# Altium integrated library Altera Cyclone.IntLib: 144 symbols (part 12 of 23)
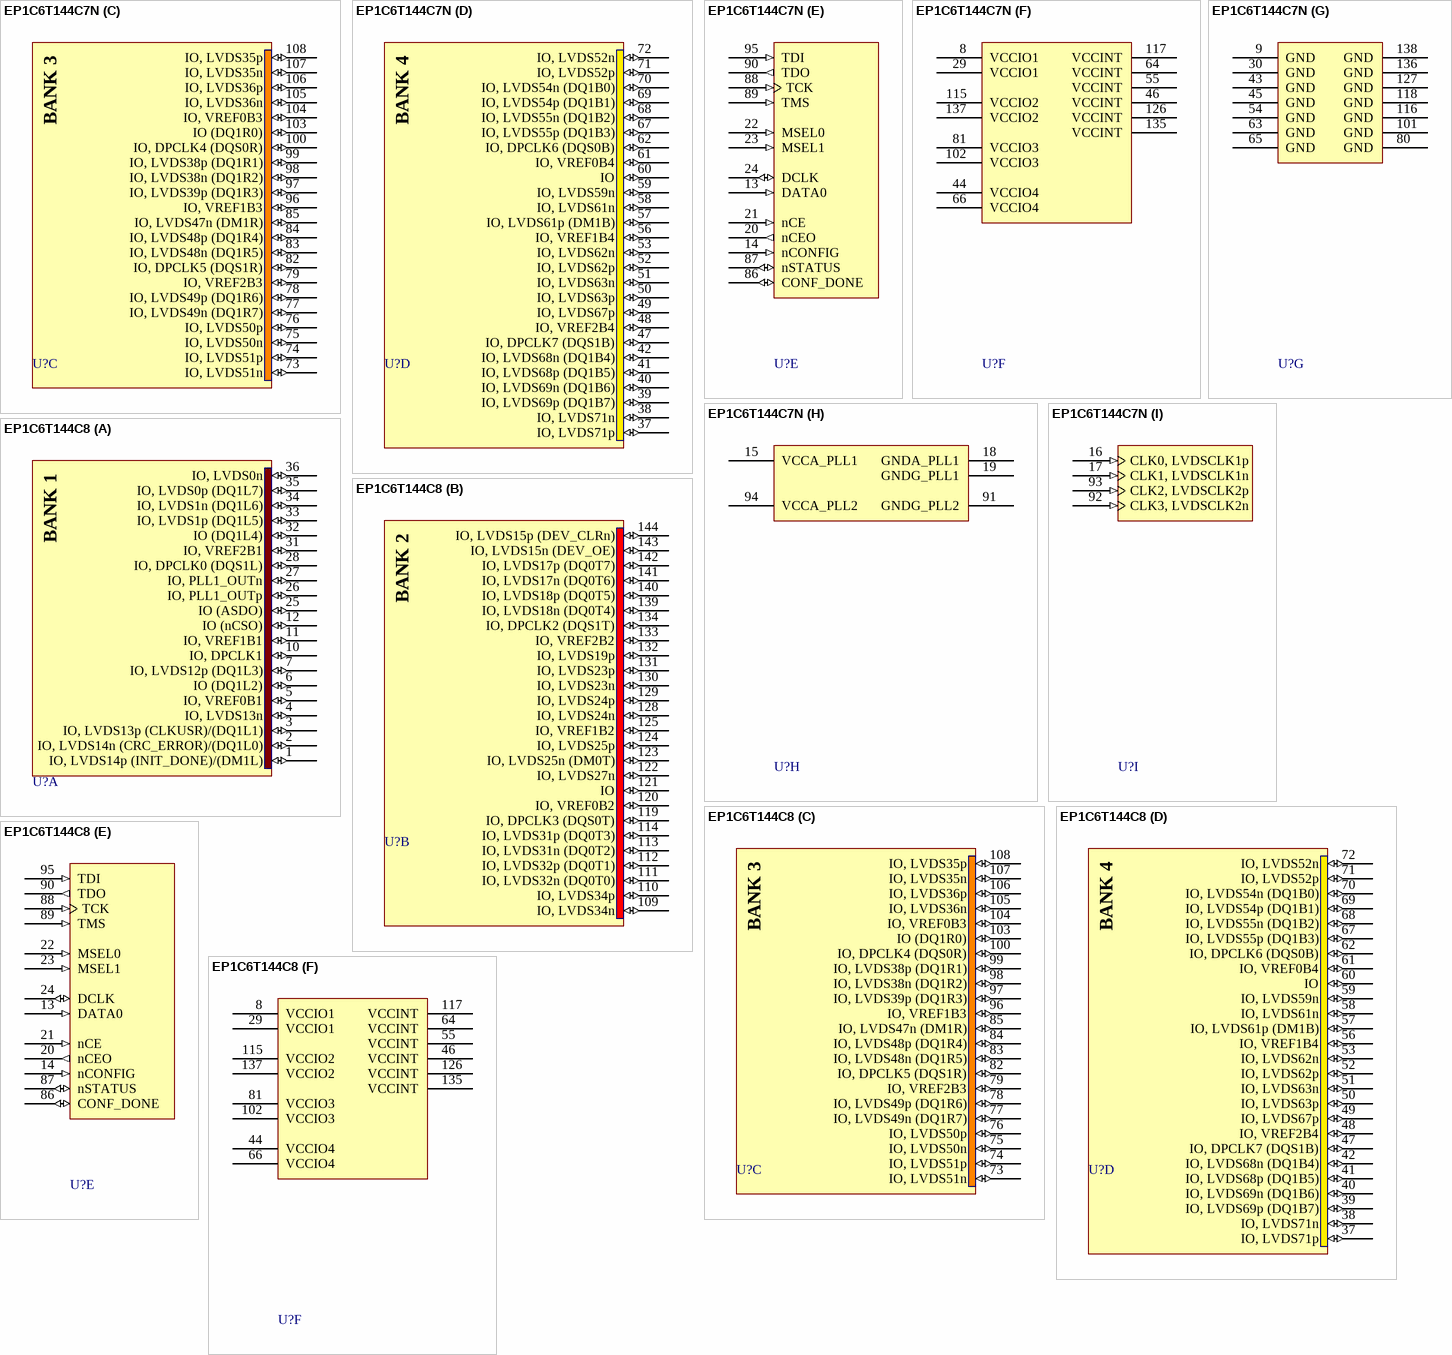
[diagram p164: symbols EP1C6T144C7N to EP1C6T144C8]

## EP1C6T144C7N
designator U?
Cyclone Family, 1.5V FPGA, 98 I/O Pins, 2 x PLLs, Commercial Grade, Speed Grade 7, Pb-Free; Published: 4-Mar-2005; LatestRevisionDate: 13-Apr-2006; LatestRevisionNote: Pin 2 name fix, IPC-7351 Footprint Added.; DatasheetVersion: May-2008; PackageVersion: ver15.1, May-2008; PackageReference: TQFP144; Publisher: Altium Limited; PackageDescription: 144-Pin Plastic Thin Quad Flat Pack (TQFP144) - Wire Bond; Code_JEDEC: MS-026-BFB; ComponentLink1Description: Manufacturer Link; ComponentLink1URL: http://www.altera.com/products/devices/cyclone/cyc-index.jsp; ComponentLink2Description: Handbook; ComponentLink2URL: http://www.altera.com/literature/hb/cyc/cyc_c5v1.pdf; ComponentLink3Description: Packaging Specification; ComponentLink3URL: http://www.altera.com/literature/ds/dspkg.pdf
footprint TQFP144_N (Thin QFP, 144-Leads, Body 20x20mm, Pitch 0.5mm, IPC Medium Density)
footprint TQFP144_L (Thin QFP, 144-Leads, Body 20x20mm, Pitch 0.5mm, IPC High Density)
footprint TQFP144_M (Thin QFP, 144-Leads, Body 20x20mm, Pitch 0.5mm, IPC Low Density)
3D model EP1C6-TQFP144 (144-Pin Plastic Thin Quad Flat Pack (TQFP144) - Wire Bond)
signal-integrity model 1c (Cyclone)
part A pins: 1 IO, LVDS14p (INIT_DONE)/(DM1L) (io), 2 IO, LVDS14n (CRC_ERROR)/(DQ1L0) (io), 3 IO, LVDS13p (CLKUSR)/(DQ1L1) (io), 4 IO, LVDS13n (io), 5 IO, VREF0B1 (io), 6 IO (DQ1L2) (io), 7 IO, LVDS12p (DQ1L3) (io), 10 IO, DPCLK1 (io), 11 IO, VREF1B1 (io), 12 IO (nCSO) (io), 25 IO (ASDO) (io), 26 IO, PLL1_OUTp (io), 27 IO, PLL1_OUTn (io), 28 IO, DPCLK0 (DQS1L) (io), 31 IO, VREF2B1 (io), 32 IO (DQ1L4) (io), 33 IO, LVDS1p (DQ1L5) (io), 34 IO, LVDS1n (DQ1L6) (io), 35 IO, LVDS0p (DQ1L7) (io), 36 IO, LVDS0n (io)
part B pins: 109 IO, LVDS34n (io), 110 IO, LVDS34p (io), 111 IO, LVDS32n (DQ0T0) (io), 112 IO, LVDS32p (DQ0T1) (io), 113 IO, LVDS31n (DQ0T2) (io), 114 IO, LVDS31p (DQ0T3) (io), 119 IO, DPCLK3 (DQS0T) (io), 120 IO, VREF0B2 (io), 121 IO (io), 122 IO, LVDS27n (io), 123 IO, LVDS25n (DM0T) (io), 124 IO, LVDS25p (io), 125 IO, VREF1B2 (io), 128 IO, LVDS24n (io), 129 IO, LVDS24p (io), 130 IO, LVDS23n (io), 131 IO, LVDS23p (io), 132 IO, LVDS19p (io), 133 IO, VREF2B2 (io), 134 IO, DPCLK2 (DQS1T) (io), 139 IO, LVDS18n (DQ0T4) (io), 140 IO, LVDS18p (DQ0T5) (io), 141 IO, LVDS17n (DQ0T6) (io), 142 IO, LVDS17p (DQ0T7) (io), 143 IO, LVDS15n (DEV_OE) (io), 144 IO, LVDS15p (DEV_CLRn) (io)
part C pins: 73 IO, LVDS51n (io), 74 IO, LVDS51p (io), 75 IO, LVDS50n (io), 76 IO, LVDS50p (io), 77 IO, LVDS49n (DQ1R7) (io), 78 IO, LVDS49p (DQ1R6) (io), 79 IO, VREF2B3 (io), 82 IO, DPCLK5 (DQS1R) (io), 83 IO, LVDS48n (DQ1R5) (io), 84 IO, LVDS48p (DQ1R4) (io), 85 IO, LVDS47n (DM1R) (io), 96 IO, VREF1B3 (io), 97 IO, LVDS39p (DQ1R3) (io), 98 IO, LVDS38n (DQ1R2) (io), 99 IO, LVDS38p (DQ1R1) (io), 100 IO, DPCLK4 (DQS0R) (io), 103 IO (DQ1R0) (io), 104 IO, VREF0B3 (io), 105 IO, LVDS36n (io), 106 IO, LVDS36p (io), 107 IO, LVDS35n (io), 108 IO, LVDS35p (io)
part D pins: 37 IO, LVDS71p (io), 38 IO, LVDS71n (io), 39 IO, LVDS69p (DQ1B7) (io), 40 IO, LVDS69n (DQ1B6) (io), 41 IO, LVDS68p (DQ1B5) (io), 42 IO, LVDS68n (DQ1B4) (io), 47 IO, DPCLK7 (DQS1B) (io), 48 IO, VREF2B4 (io), 49 IO, LVDS67p (io), 50 IO, LVDS63p (io), 51 IO, LVDS63n (io), 52 IO, LVDS62p (io), 53 IO, LVDS62n (io), 56 IO, VREF1B4 (io), 57 IO, LVDS61p (DM1B) (io), 58 IO, LVDS61n (io), 59 IO, LVDS59n (io), 60 IO (io), 61 IO, VREF0B4 (io), 62 IO, DPCLK6 (DQS0B) (io), 67 IO, LVDS55p (DQ1B3) (io), 68 IO, LVDS55n (DQ1B2) (io), 69 IO, LVDS54p (DQ1B1) (io), 70 IO, LVDS54n (DQ1B0) (io), 71 IO, LVDS52p (io), 72 IO, LVDS52n (io)
part E pins: 13 DATA0 (in), 14 nCONFIG (in), 20 nCEO (out), 21 nCE (in), 22 MSEL0 (in), 23 MSEL1 (in), 24 DCLK (io), 86 CONF_DONE (io), 87 nSTATUS (io), 88 TCK (in), 89 TMS (in), 90 TDO (out), 95 TDI (in)
part F pins: 8 VCCIO1 (power), 29 VCCIO1 (power), 44 VCCIO4 (power), 46 VCCINT (power), 55 VCCINT (power), 64 VCCINT (power), 66 VCCIO4 (power), 81 VCCIO3 (power), 102 VCCIO3 (power), 115 VCCIO2 (power), 117 VCCINT (power), 126 VCCINT (power), 135 VCCINT (power), 137 VCCIO2 (power)
part G pins: 9 GND (power), 30 GND (power), 43 GND (power), 45 GND (power), 54 GND (power), 63 GND (power), 65 GND (power), 80 GND (power), 101 GND (power), 116 GND (power), 118 GND (power), 127 GND (power), 136 GND (power), 138 GND (power)
part H pins: 15 VCCA_PLL1 (power), 18 GNDA_PLL1 (power), 19 GNDG_PLL1 (power), 91 GNDG_PLL2 (power), 94 VCCA_PLL2 (power)
part I pins: 16 CLK0, LVDSCLK1p (in), 17 CLK1, LVDSCLK1n (in), 92 CLK3, LVDSCLK2n (in), 93 CLK2, LVDSCLK2p (in)
part A text: BANK 1
part B text: BANK 2
part C text: BANK 3
part D text: BANK 4

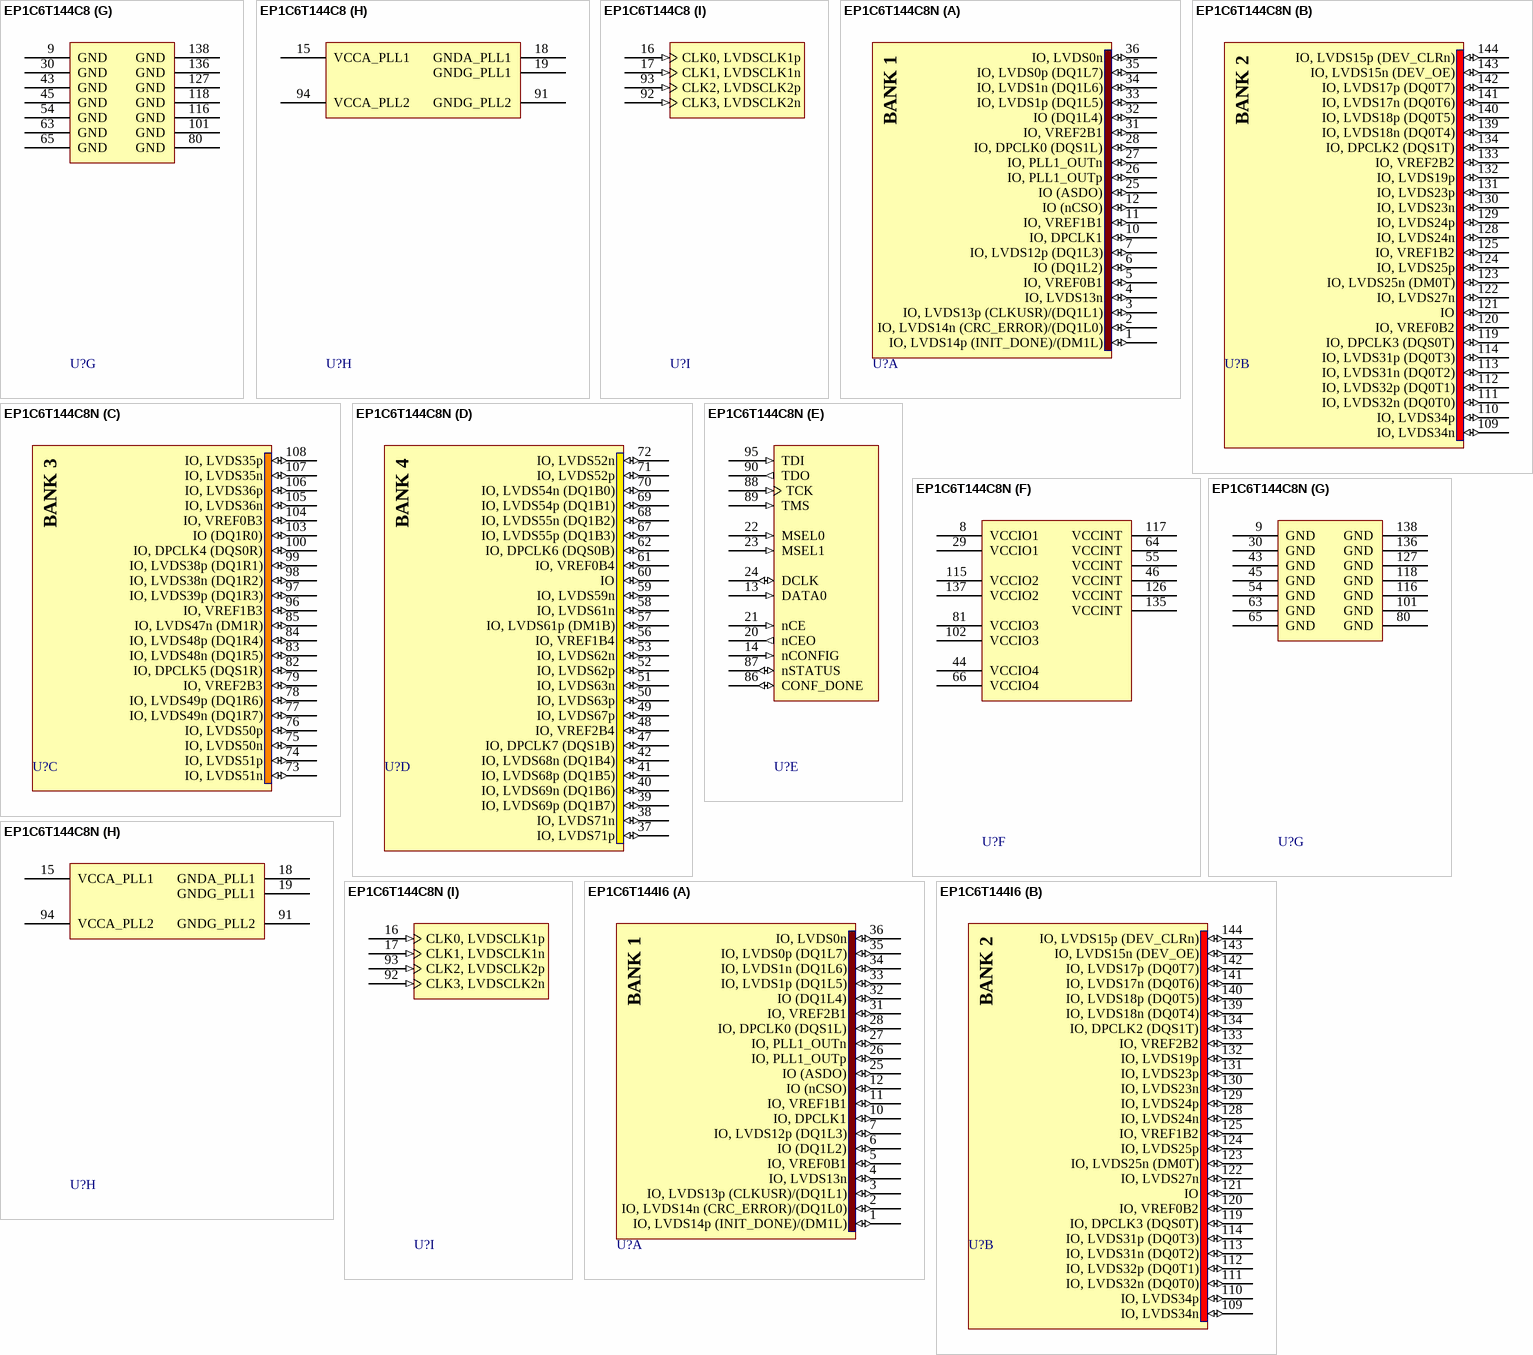
[diagram p75: symbols EP1C6T144C8 to EP1C6T144I6]

## EP1C6T144C8
designator U?
Cyclone Family, 1.5V FPGA, 98 I/O Pins, 2 x PLLs, Commercial Grade, Speed Grade 8; Published: 17-Sep-2003; LatestRevisionDate: 13-Apr-2006; LatestRevisionNote: Pin 2 name fix, IPC-7351 Footprint Added.; DatasheetVersion: May-2008; PackageVersion: ver15.1, May-2008; PackageReference: TQFP144; Publisher: Altium Limited; PackageDescription: 144-Pin Plastic Thin Quad Flat Pack (TQFP144) - Wire Bond; Code_JEDEC: MS-026-BFB; ComponentLink1Description: Manufacturer Link; ComponentLink1URL: http://www.altera.com/products/devices/cyclone/cyc-index.jsp; ComponentLink2Description: Handbook; ComponentLink2URL: http://www.altera.com/literature/hb/cyc/cyc_c5v1.pdf; ComponentLink3Description: Packaging Specification; ComponentLink3URL: http://www.altera.com/literature/ds/dspkg.pdf
footprint TQFP144_N (Thin QFP, 144-Leads, Body 20x20mm, Pitch 0.5mm, IPC Medium Density)
footprint TQFP144_L (Thin QFP, 144-Leads, Body 20x20mm, Pitch 0.5mm, IPC High Density)
footprint TQFP144_M (Thin QFP, 144-Leads, Body 20x20mm, Pitch 0.5mm, IPC Low Density)
3D model EP1C6-TQFP144 (144-Pin Plastic Thin Quad Flat Pack (TQFP144) - Wire Bond)
signal-integrity model 1c (Cyclone)
part A pins: 1 IO, LVDS14p (INIT_DONE)/(DM1L) (io), 2 IO, LVDS14n (CRC_ERROR)/(DQ1L0) (io), 3 IO, LVDS13p (CLKUSR)/(DQ1L1) (io), 4 IO, LVDS13n (io), 5 IO, VREF0B1 (io), 6 IO (DQ1L2) (io), 7 IO, LVDS12p (DQ1L3) (io), 10 IO, DPCLK1 (io), 11 IO, VREF1B1 (io), 12 IO (nCSO) (io), 25 IO (ASDO) (io), 26 IO, PLL1_OUTp (io), 27 IO, PLL1_OUTn (io), 28 IO, DPCLK0 (DQS1L) (io), 31 IO, VREF2B1 (io), 32 IO (DQ1L4) (io), 33 IO, LVDS1p (DQ1L5) (io), 34 IO, LVDS1n (DQ1L6) (io), 35 IO, LVDS0p (DQ1L7) (io), 36 IO, LVDS0n (io)
part B pins: 109 IO, LVDS34n (io), 110 IO, LVDS34p (io), 111 IO, LVDS32n (DQ0T0) (io), 112 IO, LVDS32p (DQ0T1) (io), 113 IO, LVDS31n (DQ0T2) (io), 114 IO, LVDS31p (DQ0T3) (io), 119 IO, DPCLK3 (DQS0T) (io), 120 IO, VREF0B2 (io), 121 IO (io), 122 IO, LVDS27n (io), 123 IO, LVDS25n (DM0T) (io), 124 IO, LVDS25p (io), 125 IO, VREF1B2 (io), 128 IO, LVDS24n (io), 129 IO, LVDS24p (io), 130 IO, LVDS23n (io), 131 IO, LVDS23p (io), 132 IO, LVDS19p (io), 133 IO, VREF2B2 (io), 134 IO, DPCLK2 (DQS1T) (io), 139 IO, LVDS18n (DQ0T4) (io), 140 IO, LVDS18p (DQ0T5) (io), 141 IO, LVDS17n (DQ0T6) (io), 142 IO, LVDS17p (DQ0T7) (io), 143 IO, LVDS15n (DEV_OE) (io), 144 IO, LVDS15p (DEV_CLRn) (io)
part C pins: 73 IO, LVDS51n (io), 74 IO, LVDS51p (io), 75 IO, LVDS50n (io), 76 IO, LVDS50p (io), 77 IO, LVDS49n (DQ1R7) (io), 78 IO, LVDS49p (DQ1R6) (io), 79 IO, VREF2B3 (io), 82 IO, DPCLK5 (DQS1R) (io), 83 IO, LVDS48n (DQ1R5) (io), 84 IO, LVDS48p (DQ1R4) (io), 85 IO, LVDS47n (DM1R) (io), 96 IO, VREF1B3 (io), 97 IO, LVDS39p (DQ1R3) (io), 98 IO, LVDS38n (DQ1R2) (io), 99 IO, LVDS38p (DQ1R1) (io), 100 IO, DPCLK4 (DQS0R) (io), 103 IO (DQ1R0) (io), 104 IO, VREF0B3 (io), 105 IO, LVDS36n (io), 106 IO, LVDS36p (io), 107 IO, LVDS35n (io), 108 IO, LVDS35p (io)
part D pins: 37 IO, LVDS71p (io), 38 IO, LVDS71n (io), 39 IO, LVDS69p (DQ1B7) (io), 40 IO, LVDS69n (DQ1B6) (io), 41 IO, LVDS68p (DQ1B5) (io), 42 IO, LVDS68n (DQ1B4) (io), 47 IO, DPCLK7 (DQS1B) (io), 48 IO, VREF2B4 (io), 49 IO, LVDS67p (io), 50 IO, LVDS63p (io), 51 IO, LVDS63n (io), 52 IO, LVDS62p (io), 53 IO, LVDS62n (io), 56 IO, VREF1B4 (io), 57 IO, LVDS61p (DM1B) (io), 58 IO, LVDS61n (io), 59 IO, LVDS59n (io), 60 IO (io), 61 IO, VREF0B4 (io), 62 IO, DPCLK6 (DQS0B) (io), 67 IO, LVDS55p (DQ1B3) (io), 68 IO, LVDS55n (DQ1B2) (io), 69 IO, LVDS54p (DQ1B1) (io), 70 IO, LVDS54n (DQ1B0) (io), 71 IO, LVDS52p (io), 72 IO, LVDS52n (io)
part E pins: 13 DATA0 (in), 14 nCONFIG (in), 20 nCEO (out), 21 nCE (in), 22 MSEL0 (in), 23 MSEL1 (in), 24 DCLK (io), 86 CONF_DONE (io), 87 nSTATUS (io), 88 TCK (in), 89 TMS (in), 90 TDO (out), 95 TDI (in)
part F pins: 8 VCCIO1 (power), 29 VCCIO1 (power), 44 VCCIO4 (power), 46 VCCINT (power), 55 VCCINT (power), 64 VCCINT (power), 66 VCCIO4 (power), 81 VCCIO3 (power), 102 VCCIO3 (power), 115 VCCIO2 (power), 117 VCCINT (power), 126 VCCINT (power), 135 VCCINT (power), 137 VCCIO2 (power)
part G pins: 9 GND (power), 30 GND (power), 43 GND (power), 45 GND (power), 54 GND (power), 63 GND (power), 65 GND (power), 80 GND (power), 101 GND (power), 116 GND (power), 118 GND (power), 127 GND (power), 136 GND (power), 138 GND (power)
part H pins: 15 VCCA_PLL1 (power), 18 GNDA_PLL1 (power), 19 GNDG_PLL1 (power), 91 GNDG_PLL2 (power), 94 VCCA_PLL2 (power)
part I pins: 16 CLK0, LVDSCLK1p (in), 17 CLK1, LVDSCLK1n (in), 92 CLK3, LVDSCLK2n (in), 93 CLK2, LVDSCLK2p (in)
part A text: BANK 1
part B text: BANK 2
part C text: BANK 3
part D text: BANK 4

## EP1C6T144C8N
designator U?
Cyclone Family, 1.5V FPGA, 98 I/O Pins, 2 x PLLs, Commercial Grade, Speed Grade 8, Pb-Free; Published: 4-Mar-2005; LatestRevisionDate: 13-Apr-2006; LatestRevisionNote: Pin 2 name fix, IPC-7351 Footprint Added.; DatasheetVersion: May-2008; PackageVersion: ver15.1, May-2008; PackageReference: TQFP144; Publisher: Altium Limited; PackageDescription: 144-Pin Plastic Thin Quad Flat Pack (TQFP144) - Wire Bond; Code_JEDEC: MS-026-BFB; ComponentLink1Description: Manufacturer Link; ComponentLink1URL: http://www.altera.com/products/devices/cyclone/cyc-index.jsp; ComponentLink2Description: Handbook; ComponentLink2URL: http://www.altera.com/literature/hb/cyc/cyc_c5v1.pdf; ComponentLink3Description: Packaging Specification; ComponentLink3URL: http://www.altera.com/literature/ds/dspkg.pdf
footprint TQFP144_N (Thin QFP, 144-Leads, Body 20x20mm, Pitch 0.5mm, IPC Medium Density)
footprint TQFP144_L (Thin QFP, 144-Leads, Body 20x20mm, Pitch 0.5mm, IPC High Density)
footprint TQFP144_M (Thin QFP, 144-Leads, Body 20x20mm, Pitch 0.5mm, IPC Low Density)
3D model EP1C6-TQFP144 (144-Pin Plastic Thin Quad Flat Pack (TQFP144) - Wire Bond)
signal-integrity model 1c (Cyclone)
part A pins: 1 IO, LVDS14p (INIT_DONE)/(DM1L) (io), 2 IO, LVDS14n (CRC_ERROR)/(DQ1L0) (io), 3 IO, LVDS13p (CLKUSR)/(DQ1L1) (io), 4 IO, LVDS13n (io), 5 IO, VREF0B1 (io), 6 IO (DQ1L2) (io), 7 IO, LVDS12p (DQ1L3) (io), 10 IO, DPCLK1 (io), 11 IO, VREF1B1 (io), 12 IO (nCSO) (io), 25 IO (ASDO) (io), 26 IO, PLL1_OUTp (io), 27 IO, PLL1_OUTn (io), 28 IO, DPCLK0 (DQS1L) (io), 31 IO, VREF2B1 (io), 32 IO (DQ1L4) (io), 33 IO, LVDS1p (DQ1L5) (io), 34 IO, LVDS1n (DQ1L6) (io), 35 IO, LVDS0p (DQ1L7) (io), 36 IO, LVDS0n (io)
part B pins: 109 IO, LVDS34n (io), 110 IO, LVDS34p (io), 111 IO, LVDS32n (DQ0T0) (io), 112 IO, LVDS32p (DQ0T1) (io), 113 IO, LVDS31n (DQ0T2) (io), 114 IO, LVDS31p (DQ0T3) (io), 119 IO, DPCLK3 (DQS0T) (io), 120 IO, VREF0B2 (io), 121 IO (io), 122 IO, LVDS27n (io), 123 IO, LVDS25n (DM0T) (io), 124 IO, LVDS25p (io), 125 IO, VREF1B2 (io), 128 IO, LVDS24n (io), 129 IO, LVDS24p (io), 130 IO, LVDS23n (io), 131 IO, LVDS23p (io), 132 IO, LVDS19p (io), 133 IO, VREF2B2 (io), 134 IO, DPCLK2 (DQS1T) (io), 139 IO, LVDS18n (DQ0T4) (io), 140 IO, LVDS18p (DQ0T5) (io), 141 IO, LVDS17n (DQ0T6) (io), 142 IO, LVDS17p (DQ0T7) (io), 143 IO, LVDS15n (DEV_OE) (io), 144 IO, LVDS15p (DEV_CLRn) (io)
part C pins: 73 IO, LVDS51n (io), 74 IO, LVDS51p (io), 75 IO, LVDS50n (io), 76 IO, LVDS50p (io), 77 IO, LVDS49n (DQ1R7) (io), 78 IO, LVDS49p (DQ1R6) (io), 79 IO, VREF2B3 (io), 82 IO, DPCLK5 (DQS1R) (io), 83 IO, LVDS48n (DQ1R5) (io), 84 IO, LVDS48p (DQ1R4) (io), 85 IO, LVDS47n (DM1R) (io), 96 IO, VREF1B3 (io), 97 IO, LVDS39p (DQ1R3) (io), 98 IO, LVDS38n (DQ1R2) (io), 99 IO, LVDS38p (DQ1R1) (io), 100 IO, DPCLK4 (DQS0R) (io), 103 IO (DQ1R0) (io), 104 IO, VREF0B3 (io), 105 IO, LVDS36n (io), 106 IO, LVDS36p (io), 107 IO, LVDS35n (io), 108 IO, LVDS35p (io)
part D pins: 37 IO, LVDS71p (io), 38 IO, LVDS71n (io), 39 IO, LVDS69p (DQ1B7) (io), 40 IO, LVDS69n (DQ1B6) (io), 41 IO, LVDS68p (DQ1B5) (io), 42 IO, LVDS68n (DQ1B4) (io), 47 IO, DPCLK7 (DQS1B) (io), 48 IO, VREF2B4 (io), 49 IO, LVDS67p (io), 50 IO, LVDS63p (io), 51 IO, LVDS63n (io), 52 IO, LVDS62p (io), 53 IO, LVDS62n (io), 56 IO, VREF1B4 (io), 57 IO, LVDS61p (DM1B) (io), 58 IO, LVDS61n (io), 59 IO, LVDS59n (io), 60 IO (io), 61 IO, VREF0B4 (io), 62 IO, DPCLK6 (DQS0B) (io), 67 IO, LVDS55p (DQ1B3) (io), 68 IO, LVDS55n (DQ1B2) (io), 69 IO, LVDS54p (DQ1B1) (io), 70 IO, LVDS54n (DQ1B0) (io), 71 IO, LVDS52p (io), 72 IO, LVDS52n (io)
part E pins: 13 DATA0 (in), 14 nCONFIG (in), 20 nCEO (out), 21 nCE (in), 22 MSEL0 (in), 23 MSEL1 (in), 24 DCLK (io), 86 CONF_DONE (io), 87 nSTATUS (io), 88 TCK (in), 89 TMS (in), 90 TDO (out), 95 TDI (in)
part F pins: 8 VCCIO1 (power), 29 VCCIO1 (power), 44 VCCIO4 (power), 46 VCCINT (power), 55 VCCINT (power), 64 VCCINT (power), 66 VCCIO4 (power), 81 VCCIO3 (power), 102 VCCIO3 (power), 115 VCCIO2 (power), 117 VCCINT (power), 126 VCCINT (power), 135 VCCINT (power), 137 VCCIO2 (power)
part G pins: 9 GND (power), 30 GND (power), 43 GND (power), 45 GND (power), 54 GND (power), 63 GND (power), 65 GND (power), 80 GND (power), 101 GND (power), 116 GND (power), 118 GND (power), 127 GND (power), 136 GND (power), 138 GND (power)
part H pins: 15 VCCA_PLL1 (power), 18 GNDA_PLL1 (power), 19 GNDG_PLL1 (power), 91 GNDG_PLL2 (power), 94 VCCA_PLL2 (power)
part I pins: 16 CLK0, LVDSCLK1p (in), 17 CLK1, LVDSCLK1n (in), 92 CLK3, LVDSCLK2n (in), 93 CLK2, LVDSCLK2p (in)
part A text: BANK 1
part B text: BANK 2
part C text: BANK 3
part D text: BANK 4

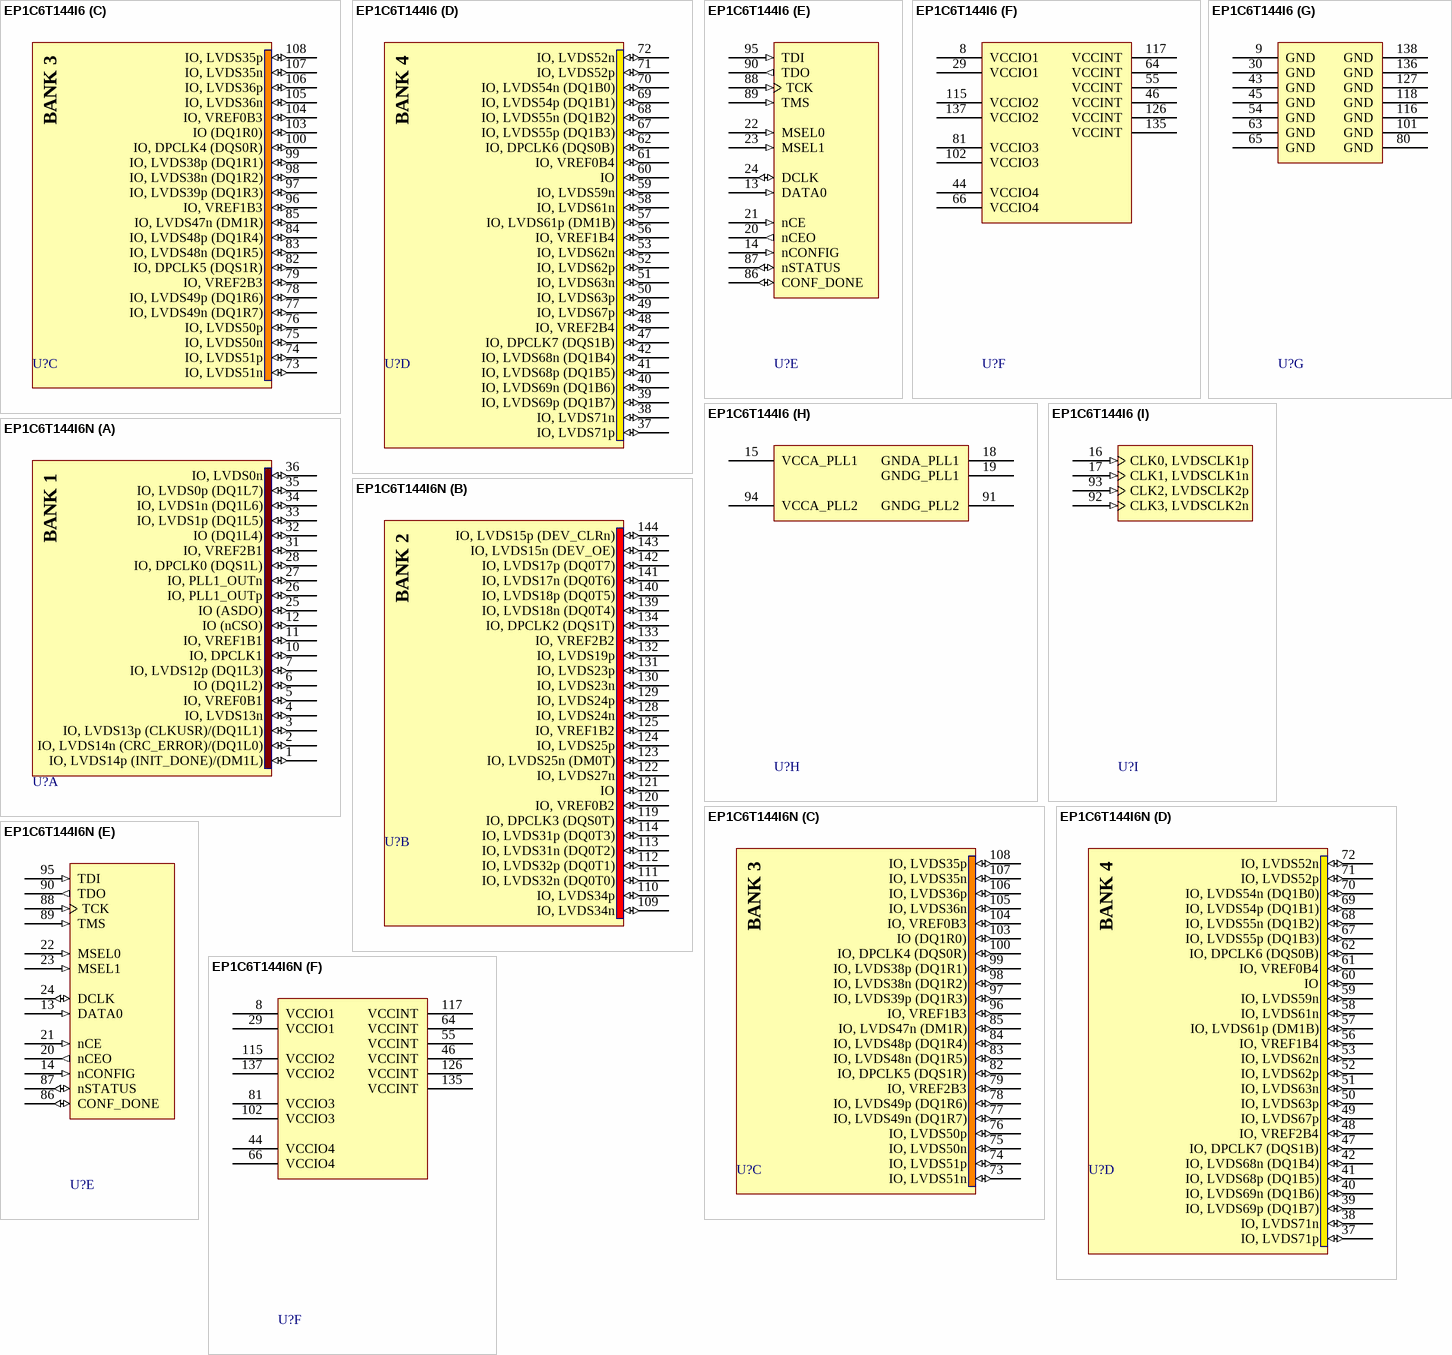
[diagram p76: symbols EP1C6T144I6 to EP1C6T144I6N]

## EP1C6T144I6
designator U?
Cyclone Family, 1.5V FPGA, 98 I/O Pins, 2 x PLLs, Industrial Grade, Speed Grade 6; Published: 17-Sep-2003; LatestRevisionDate: 13-Apr-2006; LatestRevisionNote: Pin 2 name fix, IPC-7351 Footprint Added.; DatasheetVersion: May-2008; PackageVersion: ver15.1, May-2008; PackageReference: TQFP144; Publisher: Altium Limited; PackageDescription: 144-Pin Plastic Thin Quad Flat Pack (TQFP144) - Wire Bond; Code_JEDEC: MS-026-BFB; ComponentLink1Description: Manufacturer Link; ComponentLink1URL: http://www.altera.com/products/devices/cyclone/cyc-index.jsp; ComponentLink2Description: Handbook; ComponentLink2URL: http://www.altera.com/literature/hb/cyc/cyc_c5v1.pdf; ComponentLink3Description: Packaging Specification; ComponentLink3URL: http://www.altera.com/literature/ds/dspkg.pdf
footprint TQFP144_N (Thin QFP, 144-Leads, Body 20x20mm, Pitch 0.5mm, IPC Medium Density)
footprint TQFP144_L (Thin QFP, 144-Leads, Body 20x20mm, Pitch 0.5mm, IPC High Density)
footprint TQFP144_M (Thin QFP, 144-Leads, Body 20x20mm, Pitch 0.5mm, IPC Low Density)
3D model EP1C6-TQFP144 (144-Pin Plastic Thin Quad Flat Pack (TQFP144) - Wire Bond)
signal-integrity model 1c (Cyclone)
part A pins: 1 IO, LVDS14p (INIT_DONE)/(DM1L) (io), 2 IO, LVDS14n (CRC_ERROR)/(DQ1L0) (io), 3 IO, LVDS13p (CLKUSR)/(DQ1L1) (io), 4 IO, LVDS13n (io), 5 IO, VREF0B1 (io), 6 IO (DQ1L2) (io), 7 IO, LVDS12p (DQ1L3) (io), 10 IO, DPCLK1 (io), 11 IO, VREF1B1 (io), 12 IO (nCSO) (io), 25 IO (ASDO) (io), 26 IO, PLL1_OUTp (io), 27 IO, PLL1_OUTn (io), 28 IO, DPCLK0 (DQS1L) (io), 31 IO, VREF2B1 (io), 32 IO (DQ1L4) (io), 33 IO, LVDS1p (DQ1L5) (io), 34 IO, LVDS1n (DQ1L6) (io), 35 IO, LVDS0p (DQ1L7) (io), 36 IO, LVDS0n (io)
part B pins: 109 IO, LVDS34n (io), 110 IO, LVDS34p (io), 111 IO, LVDS32n (DQ0T0) (io), 112 IO, LVDS32p (DQ0T1) (io), 113 IO, LVDS31n (DQ0T2) (io), 114 IO, LVDS31p (DQ0T3) (io), 119 IO, DPCLK3 (DQS0T) (io), 120 IO, VREF0B2 (io), 121 IO (io), 122 IO, LVDS27n (io), 123 IO, LVDS25n (DM0T) (io), 124 IO, LVDS25p (io), 125 IO, VREF1B2 (io), 128 IO, LVDS24n (io), 129 IO, LVDS24p (io), 130 IO, LVDS23n (io), 131 IO, LVDS23p (io), 132 IO, LVDS19p (io), 133 IO, VREF2B2 (io), 134 IO, DPCLK2 (DQS1T) (io), 139 IO, LVDS18n (DQ0T4) (io), 140 IO, LVDS18p (DQ0T5) (io), 141 IO, LVDS17n (DQ0T6) (io), 142 IO, LVDS17p (DQ0T7) (io), 143 IO, LVDS15n (DEV_OE) (io), 144 IO, LVDS15p (DEV_CLRn) (io)
part C pins: 73 IO, LVDS51n (io), 74 IO, LVDS51p (io), 75 IO, LVDS50n (io), 76 IO, LVDS50p (io), 77 IO, LVDS49n (DQ1R7) (io), 78 IO, LVDS49p (DQ1R6) (io), 79 IO, VREF2B3 (io), 82 IO, DPCLK5 (DQS1R) (io), 83 IO, LVDS48n (DQ1R5) (io), 84 IO, LVDS48p (DQ1R4) (io), 85 IO, LVDS47n (DM1R) (io), 96 IO, VREF1B3 (io), 97 IO, LVDS39p (DQ1R3) (io), 98 IO, LVDS38n (DQ1R2) (io), 99 IO, LVDS38p (DQ1R1) (io), 100 IO, DPCLK4 (DQS0R) (io), 103 IO (DQ1R0) (io), 104 IO, VREF0B3 (io), 105 IO, LVDS36n (io), 106 IO, LVDS36p (io), 107 IO, LVDS35n (io), 108 IO, LVDS35p (io)
part D pins: 37 IO, LVDS71p (io), 38 IO, LVDS71n (io), 39 IO, LVDS69p (DQ1B7) (io), 40 IO, LVDS69n (DQ1B6) (io), 41 IO, LVDS68p (DQ1B5) (io), 42 IO, LVDS68n (DQ1B4) (io), 47 IO, DPCLK7 (DQS1B) (io), 48 IO, VREF2B4 (io), 49 IO, LVDS67p (io), 50 IO, LVDS63p (io), 51 IO, LVDS63n (io), 52 IO, LVDS62p (io), 53 IO, LVDS62n (io), 56 IO, VREF1B4 (io), 57 IO, LVDS61p (DM1B) (io), 58 IO, LVDS61n (io), 59 IO, LVDS59n (io), 60 IO (io), 61 IO, VREF0B4 (io), 62 IO, DPCLK6 (DQS0B) (io), 67 IO, LVDS55p (DQ1B3) (io), 68 IO, LVDS55n (DQ1B2) (io), 69 IO, LVDS54p (DQ1B1) (io), 70 IO, LVDS54n (DQ1B0) (io), 71 IO, LVDS52p (io), 72 IO, LVDS52n (io)
part E pins: 13 DATA0 (in), 14 nCONFIG (in), 20 nCEO (out), 21 nCE (in), 22 MSEL0 (in), 23 MSEL1 (in), 24 DCLK (io), 86 CONF_DONE (io), 87 nSTATUS (io), 88 TCK (in), 89 TMS (in), 90 TDO (out), 95 TDI (in)
part F pins: 8 VCCIO1 (power), 29 VCCIO1 (power), 44 VCCIO4 (power), 46 VCCINT (power), 55 VCCINT (power), 64 VCCINT (power), 66 VCCIO4 (power), 81 VCCIO3 (power), 102 VCCIO3 (power), 115 VCCIO2 (power), 117 VCCINT (power), 126 VCCINT (power), 135 VCCINT (power), 137 VCCIO2 (power)
part G pins: 9 GND (power), 30 GND (power), 43 GND (power), 45 GND (power), 54 GND (power), 63 GND (power), 65 GND (power), 80 GND (power), 101 GND (power), 116 GND (power), 118 GND (power), 127 GND (power), 136 GND (power), 138 GND (power)
part H pins: 15 VCCA_PLL1 (power), 18 GNDA_PLL1 (power), 19 GNDG_PLL1 (power), 91 GNDG_PLL2 (power), 94 VCCA_PLL2 (power)
part I pins: 16 CLK0, LVDSCLK1p (in), 17 CLK1, LVDSCLK1n (in), 92 CLK3, LVDSCLK2n (in), 93 CLK2, LVDSCLK2p (in)
part A text: BANK 1
part B text: BANK 2
part C text: BANK 3
part D text: BANK 4

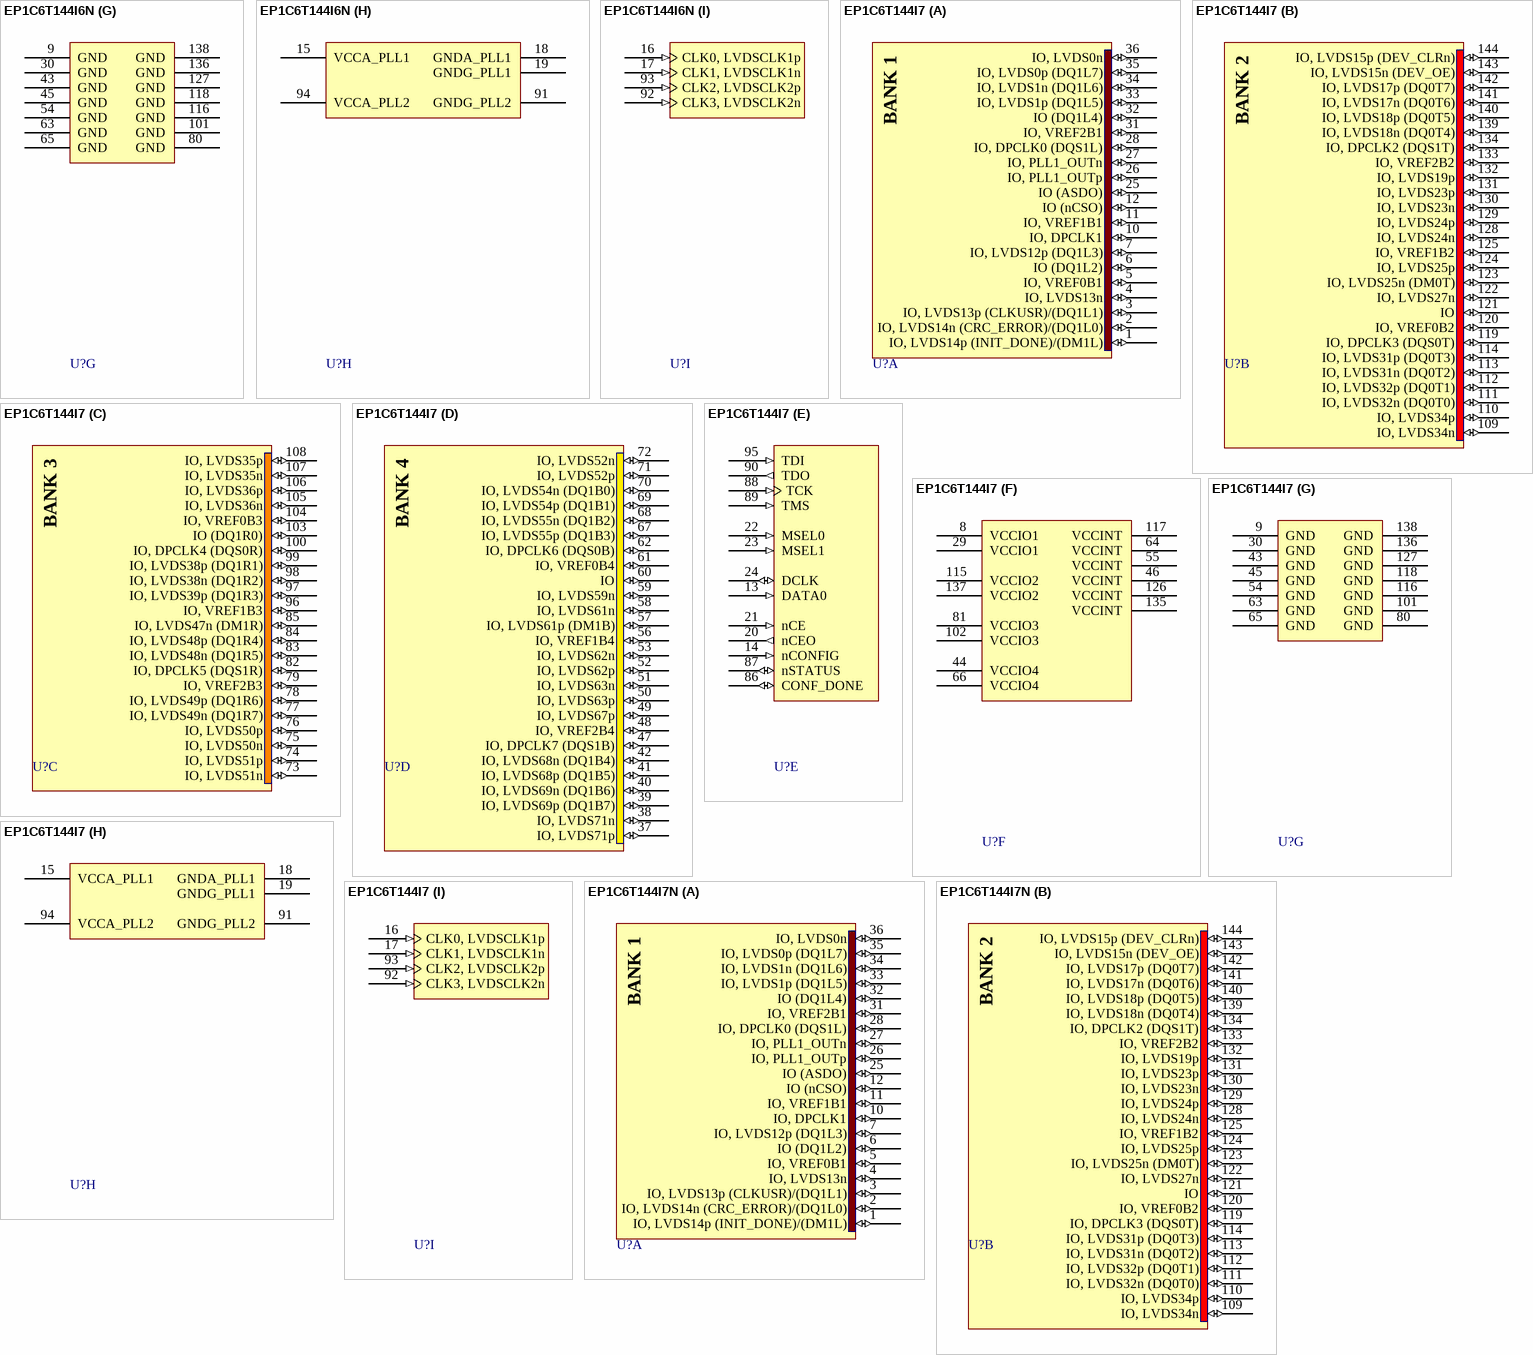
[diagram p77: symbols EP1C6T144I6N to EP1C6T144I7N]

## EP1C6T144I6N
designator U?
Cyclone Family, 1.5V FPGA, 98 I/O Pins, 2 x PLLs, Industrial Grade, Speed Grade 6, Pb-Free; Published: 18-Aug-2005; LatestRevisionDate: 13-Apr-2006; LatestRevisionNote: Pin 2 name fix, IPC-7351 Footprint Added.; DatasheetVersion: May-2008; PackageVersion: ver15.1, May-2008; PackageReference: TQFP144; Publisher: Altium Limited; PackageDescription: 144-Pin Plastic Thin Quad Flat Pack (TQFP144) - Wire Bond; Code_JEDEC: MS-026-BFB; ComponentLink1Description: Manufacturer Link; ComponentLink1URL: http://www.altera.com/products/devices/cyclone/cyc-index.jsp; ComponentLink2Description: Handbook; ComponentLink2URL: http://www.altera.com/literature/hb/cyc/cyc_c5v1.pdf; ComponentLink3Description: Packaging Specification; ComponentLink3URL: http://www.altera.com/literature/ds/dspkg.pdf
footprint TQFP144_N (Thin QFP, 144-Leads, Body 20x20mm, Pitch 0.5mm, IPC Medium Density)
footprint TQFP144_L (Thin QFP, 144-Leads, Body 20x20mm, Pitch 0.5mm, IPC High Density)
footprint TQFP144_M (Thin QFP, 144-Leads, Body 20x20mm, Pitch 0.5mm, IPC Low Density)
3D model EP1C6-TQFP144 (144-Pin Plastic Thin Quad Flat Pack (TQFP144) - Wire Bond)
signal-integrity model 1c (Cyclone)
part A pins: 1 IO, LVDS14p (INIT_DONE)/(DM1L) (io), 2 IO, LVDS14n (CRC_ERROR)/(DQ1L0) (io), 3 IO, LVDS13p (CLKUSR)/(DQ1L1) (io), 4 IO, LVDS13n (io), 5 IO, VREF0B1 (io), 6 IO (DQ1L2) (io), 7 IO, LVDS12p (DQ1L3) (io), 10 IO, DPCLK1 (io), 11 IO, VREF1B1 (io), 12 IO (nCSO) (io), 25 IO (ASDO) (io), 26 IO, PLL1_OUTp (io), 27 IO, PLL1_OUTn (io), 28 IO, DPCLK0 (DQS1L) (io), 31 IO, VREF2B1 (io), 32 IO (DQ1L4) (io), 33 IO, LVDS1p (DQ1L5) (io), 34 IO, LVDS1n (DQ1L6) (io), 35 IO, LVDS0p (DQ1L7) (io), 36 IO, LVDS0n (io)
part B pins: 109 IO, LVDS34n (io), 110 IO, LVDS34p (io), 111 IO, LVDS32n (DQ0T0) (io), 112 IO, LVDS32p (DQ0T1) (io), 113 IO, LVDS31n (DQ0T2) (io), 114 IO, LVDS31p (DQ0T3) (io), 119 IO, DPCLK3 (DQS0T) (io), 120 IO, VREF0B2 (io), 121 IO (io), 122 IO, LVDS27n (io), 123 IO, LVDS25n (DM0T) (io), 124 IO, LVDS25p (io), 125 IO, VREF1B2 (io), 128 IO, LVDS24n (io), 129 IO, LVDS24p (io), 130 IO, LVDS23n (io), 131 IO, LVDS23p (io), 132 IO, LVDS19p (io), 133 IO, VREF2B2 (io), 134 IO, DPCLK2 (DQS1T) (io), 139 IO, LVDS18n (DQ0T4) (io), 140 IO, LVDS18p (DQ0T5) (io), 141 IO, LVDS17n (DQ0T6) (io), 142 IO, LVDS17p (DQ0T7) (io), 143 IO, LVDS15n (DEV_OE) (io), 144 IO, LVDS15p (DEV_CLRn) (io)
part C pins: 73 IO, LVDS51n (io), 74 IO, LVDS51p (io), 75 IO, LVDS50n (io), 76 IO, LVDS50p (io), 77 IO, LVDS49n (DQ1R7) (io), 78 IO, LVDS49p (DQ1R6) (io), 79 IO, VREF2B3 (io), 82 IO, DPCLK5 (DQS1R) (io), 83 IO, LVDS48n (DQ1R5) (io), 84 IO, LVDS48p (DQ1R4) (io), 85 IO, LVDS47n (DM1R) (io), 96 IO, VREF1B3 (io), 97 IO, LVDS39p (DQ1R3) (io), 98 IO, LVDS38n (DQ1R2) (io), 99 IO, LVDS38p (DQ1R1) (io), 100 IO, DPCLK4 (DQS0R) (io), 103 IO (DQ1R0) (io), 104 IO, VREF0B3 (io), 105 IO, LVDS36n (io), 106 IO, LVDS36p (io), 107 IO, LVDS35n (io), 108 IO, LVDS35p (io)
part D pins: 37 IO, LVDS71p (io), 38 IO, LVDS71n (io), 39 IO, LVDS69p (DQ1B7) (io), 40 IO, LVDS69n (DQ1B6) (io), 41 IO, LVDS68p (DQ1B5) (io), 42 IO, LVDS68n (DQ1B4) (io), 47 IO, DPCLK7 (DQS1B) (io), 48 IO, VREF2B4 (io), 49 IO, LVDS67p (io), 50 IO, LVDS63p (io), 51 IO, LVDS63n (io), 52 IO, LVDS62p (io), 53 IO, LVDS62n (io), 56 IO, VREF1B4 (io), 57 IO, LVDS61p (DM1B) (io), 58 IO, LVDS61n (io), 59 IO, LVDS59n (io), 60 IO (io), 61 IO, VREF0B4 (io), 62 IO, DPCLK6 (DQS0B) (io), 67 IO, LVDS55p (DQ1B3) (io), 68 IO, LVDS55n (DQ1B2) (io), 69 IO, LVDS54p (DQ1B1) (io), 70 IO, LVDS54n (DQ1B0) (io), 71 IO, LVDS52p (io), 72 IO, LVDS52n (io)
part E pins: 13 DATA0 (in), 14 nCONFIG (in), 20 nCEO (out), 21 nCE (in), 22 MSEL0 (in), 23 MSEL1 (in), 24 DCLK (io), 86 CONF_DONE (io), 87 nSTATUS (io), 88 TCK (in), 89 TMS (in), 90 TDO (out), 95 TDI (in)
part F pins: 8 VCCIO1 (power), 29 VCCIO1 (power), 44 VCCIO4 (power), 46 VCCINT (power), 55 VCCINT (power), 64 VCCINT (power), 66 VCCIO4 (power), 81 VCCIO3 (power), 102 VCCIO3 (power), 115 VCCIO2 (power), 117 VCCINT (power), 126 VCCINT (power), 135 VCCINT (power), 137 VCCIO2 (power)
part G pins: 9 GND (power), 30 GND (power), 43 GND (power), 45 GND (power), 54 GND (power), 63 GND (power), 65 GND (power), 80 GND (power), 101 GND (power), 116 GND (power), 118 GND (power), 127 GND (power), 136 GND (power), 138 GND (power)
part H pins: 15 VCCA_PLL1 (power), 18 GNDA_PLL1 (power), 19 GNDG_PLL1 (power), 91 GNDG_PLL2 (power), 94 VCCA_PLL2 (power)
part I pins: 16 CLK0, LVDSCLK1p (in), 17 CLK1, LVDSCLK1n (in), 92 CLK3, LVDSCLK2n (in), 93 CLK2, LVDSCLK2p (in)
part A text: BANK 1
part B text: BANK 2
part C text: BANK 3
part D text: BANK 4

## EP1C6T144I7
designator U?
Cyclone Family, 1.5V FPGA, 98 I/O Pins, 2 x PLLs, Industrial Grade, Speed Grade 7; Published: 17-Sep-2003; LatestRevisionDate: 13-Apr-2006; LatestRevisionNote: Pin 2 name fix, IPC-7351 Footprint Added.; DatasheetVersion: May-2008; PackageVersion: ver15.1, May-2008; PackageReference: TQFP144; Publisher: Altium Limited; PackageDescription: 144-Pin Plastic Thin Quad Flat Pack (TQFP144) - Wire Bond; Code_JEDEC: MS-026-BFB; ComponentLink1Description: Manufacturer Link; ComponentLink1URL: http://www.altera.com/products/devices/cyclone/cyc-index.jsp; ComponentLink2Description: Handbook; ComponentLink2URL: http://www.altera.com/literature/hb/cyc/cyc_c5v1.pdf; ComponentLink3Description: Packaging Specification; ComponentLink3URL: http://www.altera.com/literature/ds/dspkg.pdf
footprint TQFP144_N (Thin QFP, 144-Leads, Body 20x20mm, Pitch 0.5mm, IPC Medium Density)
footprint TQFP144_L (Thin QFP, 144-Leads, Body 20x20mm, Pitch 0.5mm, IPC High Density)
footprint TQFP144_M (Thin QFP, 144-Leads, Body 20x20mm, Pitch 0.5mm, IPC Low Density)
3D model EP1C6-TQFP144 (144-Pin Plastic Thin Quad Flat Pack (TQFP144) - Wire Bond)
signal-integrity model 1c (Cyclone)
part A pins: 1 IO, LVDS14p (INIT_DONE)/(DM1L) (io), 2 IO, LVDS14n (CRC_ERROR)/(DQ1L0) (io), 3 IO, LVDS13p (CLKUSR)/(DQ1L1) (io), 4 IO, LVDS13n (io), 5 IO, VREF0B1 (io), 6 IO (DQ1L2) (io), 7 IO, LVDS12p (DQ1L3) (io), 10 IO, DPCLK1 (io), 11 IO, VREF1B1 (io), 12 IO (nCSO) (io), 25 IO (ASDO) (io), 26 IO, PLL1_OUTp (io), 27 IO, PLL1_OUTn (io), 28 IO, DPCLK0 (DQS1L) (io), 31 IO, VREF2B1 (io), 32 IO (DQ1L4) (io), 33 IO, LVDS1p (DQ1L5) (io), 34 IO, LVDS1n (DQ1L6) (io), 35 IO, LVDS0p (DQ1L7) (io), 36 IO, LVDS0n (io)
part B pins: 109 IO, LVDS34n (io), 110 IO, LVDS34p (io), 111 IO, LVDS32n (DQ0T0) (io), 112 IO, LVDS32p (DQ0T1) (io), 113 IO, LVDS31n (DQ0T2) (io), 114 IO, LVDS31p (DQ0T3) (io), 119 IO, DPCLK3 (DQS0T) (io), 120 IO, VREF0B2 (io), 121 IO (io), 122 IO, LVDS27n (io), 123 IO, LVDS25n (DM0T) (io), 124 IO, LVDS25p (io), 125 IO, VREF1B2 (io), 128 IO, LVDS24n (io), 129 IO, LVDS24p (io), 130 IO, LVDS23n (io), 131 IO, LVDS23p (io), 132 IO, LVDS19p (io), 133 IO, VREF2B2 (io), 134 IO, DPCLK2 (DQS1T) (io), 139 IO, LVDS18n (DQ0T4) (io), 140 IO, LVDS18p (DQ0T5) (io), 141 IO, LVDS17n (DQ0T6) (io), 142 IO, LVDS17p (DQ0T7) (io), 143 IO, LVDS15n (DEV_OE) (io), 144 IO, LVDS15p (DEV_CLRn) (io)
part C pins: 73 IO, LVDS51n (io), 74 IO, LVDS51p (io), 75 IO, LVDS50n (io), 76 IO, LVDS50p (io), 77 IO, LVDS49n (DQ1R7) (io), 78 IO, LVDS49p (DQ1R6) (io), 79 IO, VREF2B3 (io), 82 IO, DPCLK5 (DQS1R) (io), 83 IO, LVDS48n (DQ1R5) (io), 84 IO, LVDS48p (DQ1R4) (io), 85 IO, LVDS47n (DM1R) (io), 96 IO, VREF1B3 (io), 97 IO, LVDS39p (DQ1R3) (io), 98 IO, LVDS38n (DQ1R2) (io), 99 IO, LVDS38p (DQ1R1) (io), 100 IO, DPCLK4 (DQS0R) (io), 103 IO (DQ1R0) (io), 104 IO, VREF0B3 (io), 105 IO, LVDS36n (io), 106 IO, LVDS36p (io), 107 IO, LVDS35n (io), 108 IO, LVDS35p (io)
part D pins: 37 IO, LVDS71p (io), 38 IO, LVDS71n (io), 39 IO, LVDS69p (DQ1B7) (io), 40 IO, LVDS69n (DQ1B6) (io), 41 IO, LVDS68p (DQ1B5) (io), 42 IO, LVDS68n (DQ1B4) (io), 47 IO, DPCLK7 (DQS1B) (io), 48 IO, VREF2B4 (io), 49 IO, LVDS67p (io), 50 IO, LVDS63p (io), 51 IO, LVDS63n (io), 52 IO, LVDS62p (io), 53 IO, LVDS62n (io), 56 IO, VREF1B4 (io), 57 IO, LVDS61p (DM1B) (io), 58 IO, LVDS61n (io), 59 IO, LVDS59n (io), 60 IO (io), 61 IO, VREF0B4 (io), 62 IO, DPCLK6 (DQS0B) (io), 67 IO, LVDS55p (DQ1B3) (io), 68 IO, LVDS55n (DQ1B2) (io), 69 IO, LVDS54p (DQ1B1) (io), 70 IO, LVDS54n (DQ1B0) (io), 71 IO, LVDS52p (io), 72 IO, LVDS52n (io)
part E pins: 13 DATA0 (in), 14 nCONFIG (in), 20 nCEO (out), 21 nCE (in), 22 MSEL0 (in), 23 MSEL1 (in), 24 DCLK (io), 86 CONF_DONE (io), 87 nSTATUS (io), 88 TCK (in), 89 TMS (in), 90 TDO (out), 95 TDI (in)
part F pins: 8 VCCIO1 (power), 29 VCCIO1 (power), 44 VCCIO4 (power), 46 VCCINT (power), 55 VCCINT (power), 64 VCCINT (power), 66 VCCIO4 (power), 81 VCCIO3 (power), 102 VCCIO3 (power), 115 VCCIO2 (power), 117 VCCINT (power), 126 VCCINT (power), 135 VCCINT (power), 137 VCCIO2 (power)
part G pins: 9 GND (power), 30 GND (power), 43 GND (power), 45 GND (power), 54 GND (power), 63 GND (power), 65 GND (power), 80 GND (power), 101 GND (power), 116 GND (power), 118 GND (power), 127 GND (power), 136 GND (power), 138 GND (power)
part H pins: 15 VCCA_PLL1 (power), 18 GNDA_PLL1 (power), 19 GNDG_PLL1 (power), 91 GNDG_PLL2 (power), 94 VCCA_PLL2 (power)
part I pins: 16 CLK0, LVDSCLK1p (in), 17 CLK1, LVDSCLK1n (in), 92 CLK3, LVDSCLK2n (in), 93 CLK2, LVDSCLK2p (in)
part A text: BANK 1
part B text: BANK 2
part C text: BANK 3
part D text: BANK 4

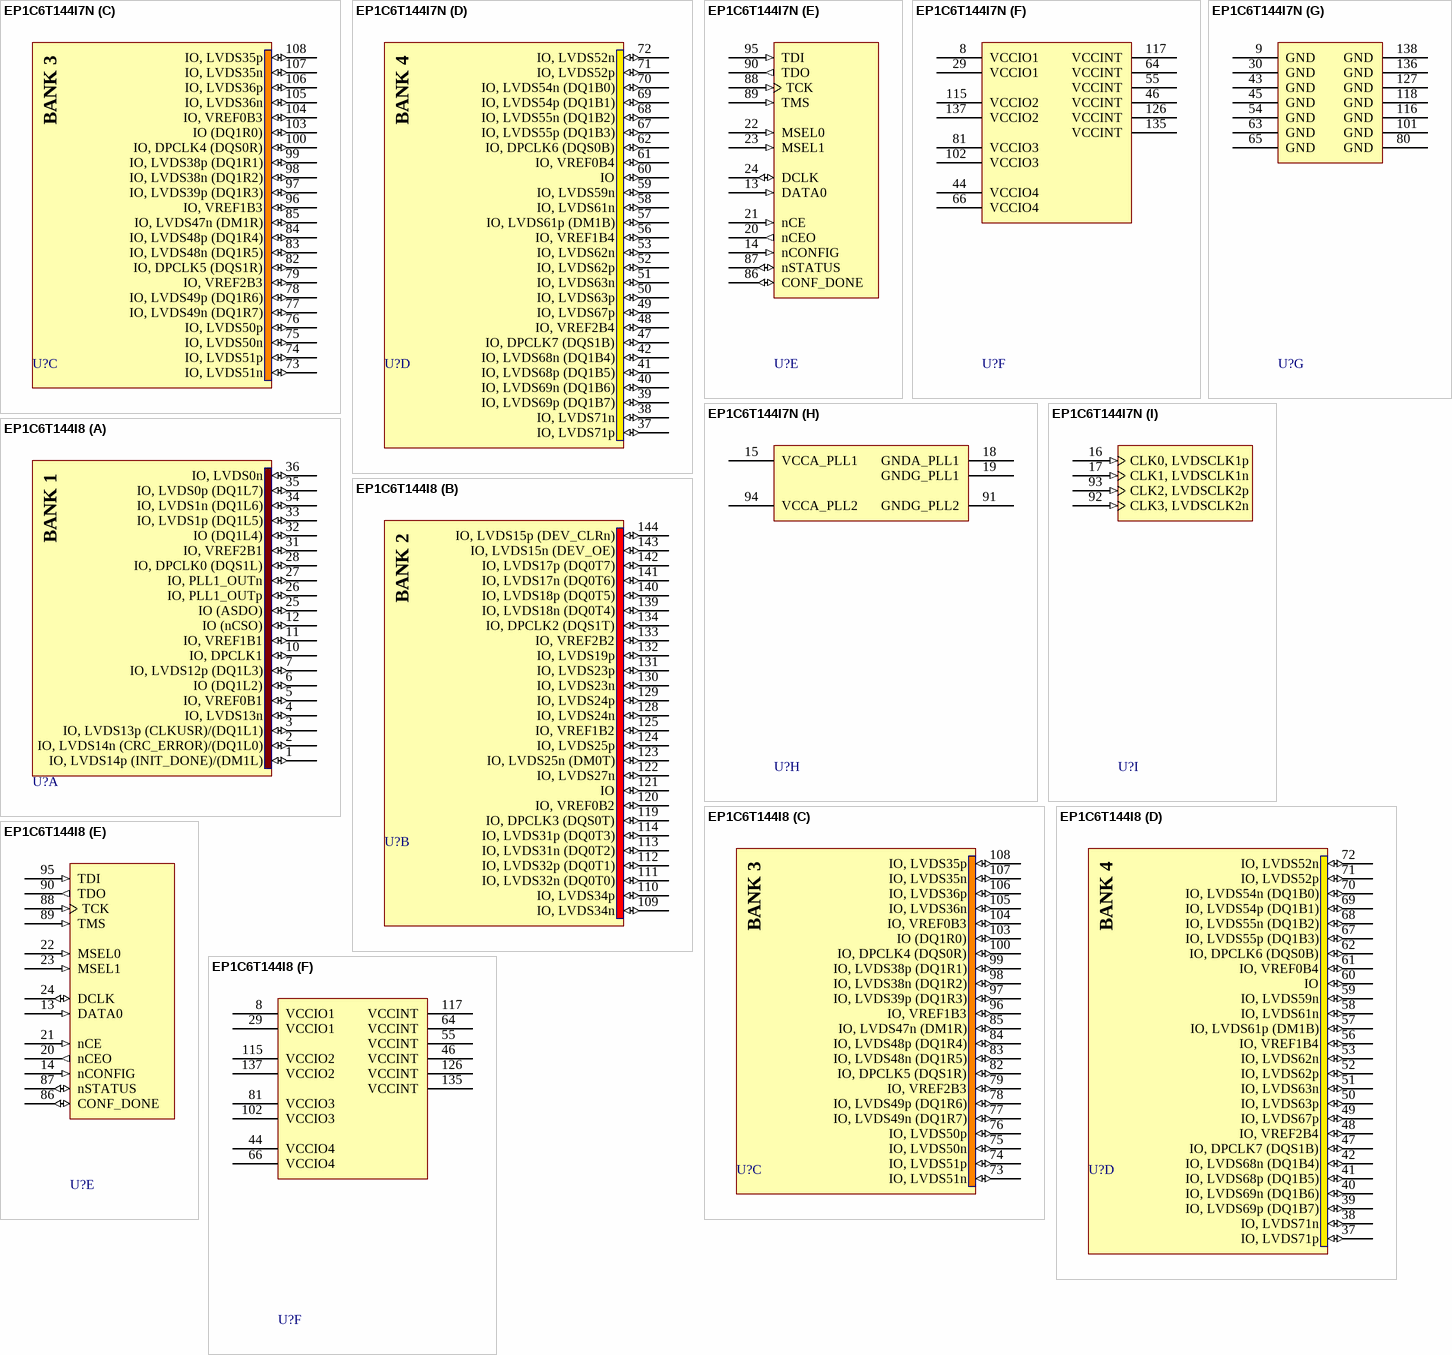
[diagram p78: symbols EP1C6T144I7N to EP1C6T144I8]

## EP1C6T144I7N
designator U?
Cyclone Family, 1.5V FPGA, 98 I/O Pins, 2 x PLLs, Industrial Grade, Speed Grade 7, Pb-Free; Published: 18-Aug-2005; LatestRevisionDate: 13-Apr-2006; LatestRevisionNote: Pin 2 name fix, IPC-7351 Footprint Added.; DatasheetVersion: May-2008; PackageVersion: ver15.1, May-2008; PackageReference: TQFP144; Publisher: Altium Limited; PackageDescription: 144-Pin Plastic Thin Quad Flat Pack (TQFP144) - Wire Bond; Code_JEDEC: MS-026-BFB; ComponentLink1Description: Manufacturer Link; ComponentLink1URL: http://www.altera.com/products/devices/cyclone/cyc-index.jsp; ComponentLink2Description: Handbook; ComponentLink2URL: http://www.altera.com/literature/hb/cyc/cyc_c5v1.pdf; ComponentLink3Description: Packaging Specification; ComponentLink3URL: http://www.altera.com/literature/ds/dspkg.pdf
footprint TQFP144_N (Thin QFP, 144-Leads, Body 20x20mm, Pitch 0.5mm, IPC Medium Density)
footprint TQFP144_L (Thin QFP, 144-Leads, Body 20x20mm, Pitch 0.5mm, IPC High Density)
footprint TQFP144_M (Thin QFP, 144-Leads, Body 20x20mm, Pitch 0.5mm, IPC Low Density)
3D model EP1C6-TQFP144 (144-Pin Plastic Thin Quad Flat Pack (TQFP144) - Wire Bond)
signal-integrity model 1c (Cyclone)
part A pins: 1 IO, LVDS14p (INIT_DONE)/(DM1L) (io), 2 IO, LVDS14n (CRC_ERROR)/(DQ1L0) (io), 3 IO, LVDS13p (CLKUSR)/(DQ1L1) (io), 4 IO, LVDS13n (io), 5 IO, VREF0B1 (io), 6 IO (DQ1L2) (io), 7 IO, LVDS12p (DQ1L3) (io), 10 IO, DPCLK1 (io), 11 IO, VREF1B1 (io), 12 IO (nCSO) (io), 25 IO (ASDO) (io), 26 IO, PLL1_OUTp (io), 27 IO, PLL1_OUTn (io), 28 IO, DPCLK0 (DQS1L) (io), 31 IO, VREF2B1 (io), 32 IO (DQ1L4) (io), 33 IO, LVDS1p (DQ1L5) (io), 34 IO, LVDS1n (DQ1L6) (io), 35 IO, LVDS0p (DQ1L7) (io), 36 IO, LVDS0n (io)
part B pins: 109 IO, LVDS34n (io), 110 IO, LVDS34p (io), 111 IO, LVDS32n (DQ0T0) (io), 112 IO, LVDS32p (DQ0T1) (io), 113 IO, LVDS31n (DQ0T2) (io), 114 IO, LVDS31p (DQ0T3) (io), 119 IO, DPCLK3 (DQS0T) (io), 120 IO, VREF0B2 (io), 121 IO (io), 122 IO, LVDS27n (io), 123 IO, LVDS25n (DM0T) (io), 124 IO, LVDS25p (io), 125 IO, VREF1B2 (io), 128 IO, LVDS24n (io), 129 IO, LVDS24p (io), 130 IO, LVDS23n (io), 131 IO, LVDS23p (io), 132 IO, LVDS19p (io), 133 IO, VREF2B2 (io), 134 IO, DPCLK2 (DQS1T) (io), 139 IO, LVDS18n (DQ0T4) (io), 140 IO, LVDS18p (DQ0T5) (io), 141 IO, LVDS17n (DQ0T6) (io), 142 IO, LVDS17p (DQ0T7) (io), 143 IO, LVDS15n (DEV_OE) (io), 144 IO, LVDS15p (DEV_CLRn) (io)
part C pins: 73 IO, LVDS51n (io), 74 IO, LVDS51p (io), 75 IO, LVDS50n (io), 76 IO, LVDS50p (io), 77 IO, LVDS49n (DQ1R7) (io), 78 IO, LVDS49p (DQ1R6) (io), 79 IO, VREF2B3 (io), 82 IO, DPCLK5 (DQS1R) (io), 83 IO, LVDS48n (DQ1R5) (io), 84 IO, LVDS48p (DQ1R4) (io), 85 IO, LVDS47n (DM1R) (io), 96 IO, VREF1B3 (io), 97 IO, LVDS39p (DQ1R3) (io), 98 IO, LVDS38n (DQ1R2) (io), 99 IO, LVDS38p (DQ1R1) (io), 100 IO, DPCLK4 (DQS0R) (io), 103 IO (DQ1R0) (io), 104 IO, VREF0B3 (io), 105 IO, LVDS36n (io), 106 IO, LVDS36p (io), 107 IO, LVDS35n (io), 108 IO, LVDS35p (io)
part D pins: 37 IO, LVDS71p (io), 38 IO, LVDS71n (io), 39 IO, LVDS69p (DQ1B7) (io), 40 IO, LVDS69n (DQ1B6) (io), 41 IO, LVDS68p (DQ1B5) (io), 42 IO, LVDS68n (DQ1B4) (io), 47 IO, DPCLK7 (DQS1B) (io), 48 IO, VREF2B4 (io), 49 IO, LVDS67p (io), 50 IO, LVDS63p (io), 51 IO, LVDS63n (io), 52 IO, LVDS62p (io), 53 IO, LVDS62n (io), 56 IO, VREF1B4 (io), 57 IO, LVDS61p (DM1B) (io), 58 IO, LVDS61n (io), 59 IO, LVDS59n (io), 60 IO (io), 61 IO, VREF0B4 (io), 62 IO, DPCLK6 (DQS0B) (io), 67 IO, LVDS55p (DQ1B3) (io), 68 IO, LVDS55n (DQ1B2) (io), 69 IO, LVDS54p (DQ1B1) (io), 70 IO, LVDS54n (DQ1B0) (io), 71 IO, LVDS52p (io), 72 IO, LVDS52n (io)
part E pins: 13 DATA0 (in), 14 nCONFIG (in), 20 nCEO (out), 21 nCE (in), 22 MSEL0 (in), 23 MSEL1 (in), 24 DCLK (io), 86 CONF_DONE (io), 87 nSTATUS (io), 88 TCK (in), 89 TMS (in), 90 TDO (out), 95 TDI (in)
part F pins: 8 VCCIO1 (power), 29 VCCIO1 (power), 44 VCCIO4 (power), 46 VCCINT (power), 55 VCCINT (power), 64 VCCINT (power), 66 VCCIO4 (power), 81 VCCIO3 (power), 102 VCCIO3 (power), 115 VCCIO2 (power), 117 VCCINT (power), 126 VCCINT (power), 135 VCCINT (power), 137 VCCIO2 (power)
part G pins: 9 GND (power), 30 GND (power), 43 GND (power), 45 GND (power), 54 GND (power), 63 GND (power), 65 GND (power), 80 GND (power), 101 GND (power), 116 GND (power), 118 GND (power), 127 GND (power), 136 GND (power), 138 GND (power)
part H pins: 15 VCCA_PLL1 (power), 18 GNDA_PLL1 (power), 19 GNDG_PLL1 (power), 91 GNDG_PLL2 (power), 94 VCCA_PLL2 (power)
part I pins: 16 CLK0, LVDSCLK1p (in), 17 CLK1, LVDSCLK1n (in), 92 CLK3, LVDSCLK2n (in), 93 CLK2, LVDSCLK2p (in)
part A text: BANK 1
part B text: BANK 2
part C text: BANK 3
part D text: BANK 4

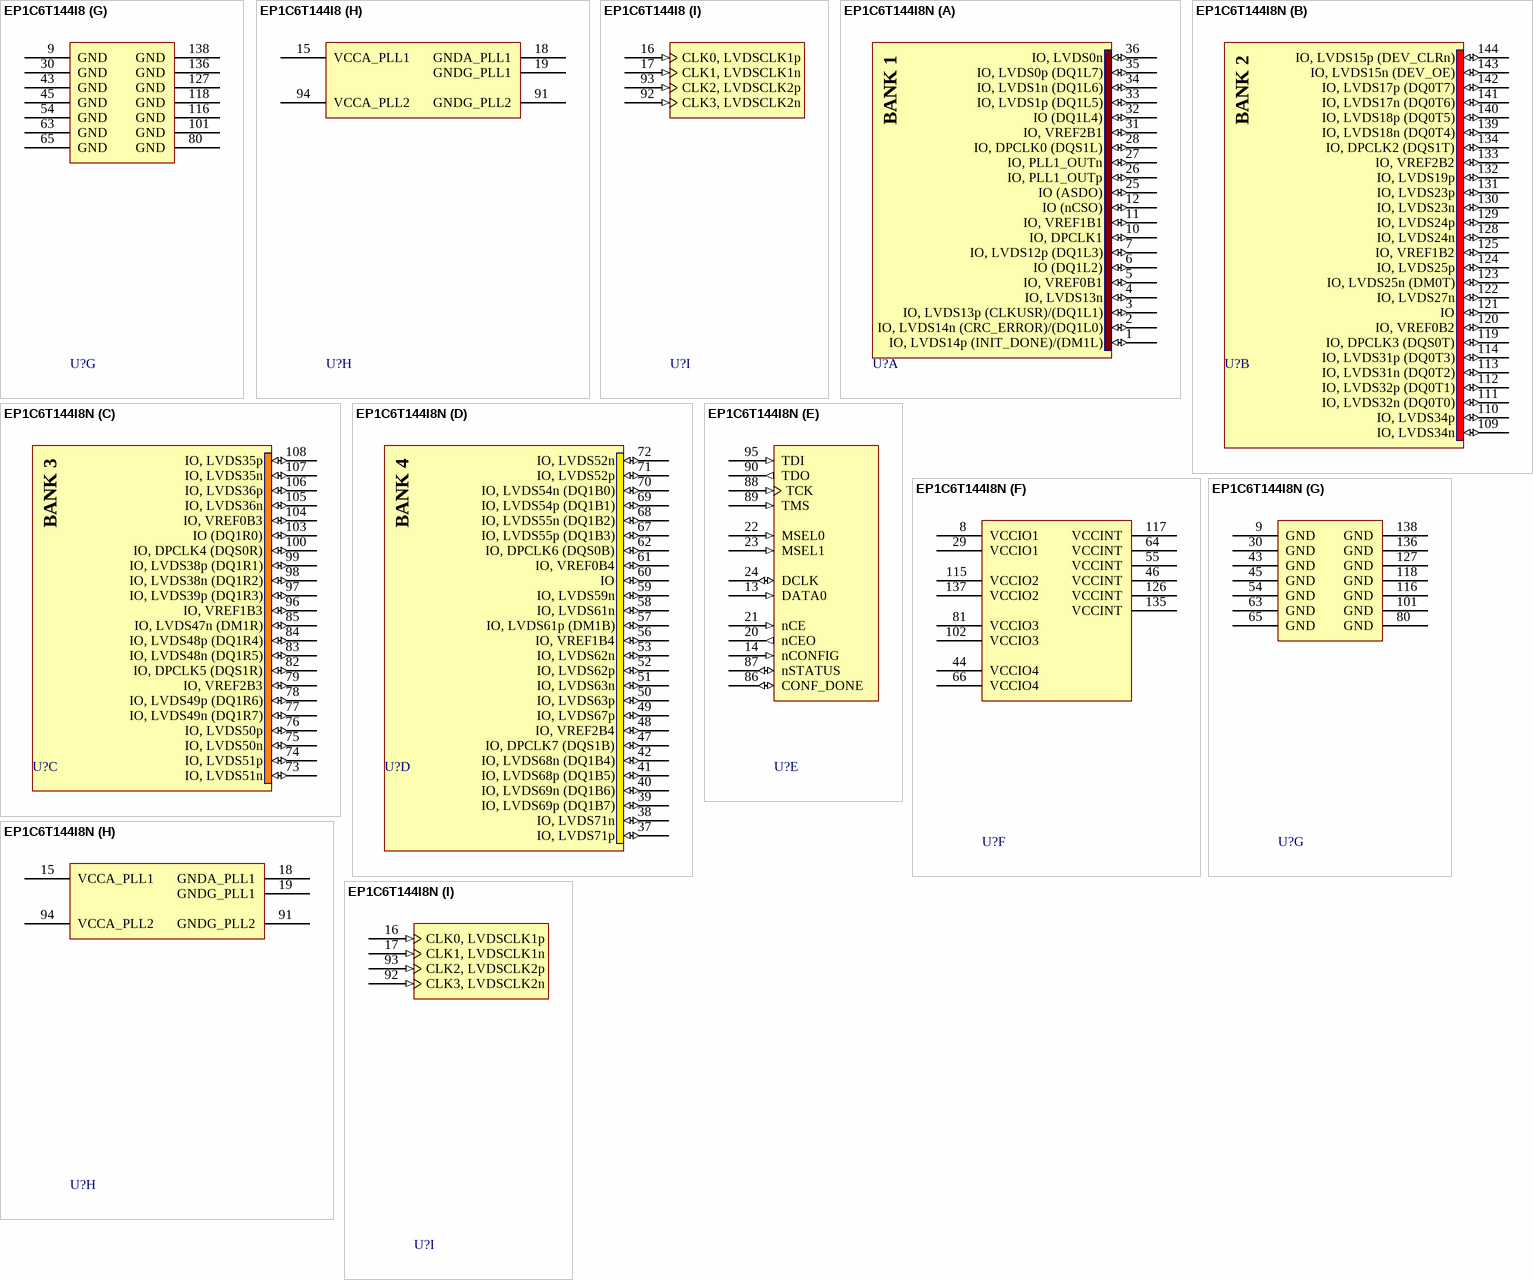
[diagram p79: symbols EP1C6T144I8 to EP1C6T144I8N]

## EP1C6T144I8
designator U?
Cyclone Family, 1.5V FPGA, 98 I/O Pins, 2 x PLLs, Industrial Grade, Speed Grade 8; Published: 17-Sep-2003; LatestRevisionDate: 13-Apr-2006; LatestRevisionNote: Pin 2 name fix, IPC-7351 Footprint Added.; DatasheetVersion: May-2008; PackageVersion: ver15.1, May-2008; PackageReference: TQFP144; Publisher: Altium Limited; PackageDescription: 144-Pin Plastic Thin Quad Flat Pack (TQFP144) - Wire Bond; Code_JEDEC: MS-026-BFB; ComponentLink1Description: Manufacturer Link; ComponentLink1URL: http://www.altera.com/products/devices/cyclone/cyc-index.jsp; ComponentLink2Description: Handbook; ComponentLink2URL: http://www.altera.com/literature/hb/cyc/cyc_c5v1.pdf; ComponentLink3Description: Packaging Specification; ComponentLink3URL: http://www.altera.com/literature/ds/dspkg.pdf
footprint TQFP144_N (Thin QFP, 144-Leads, Body 20x20mm, Pitch 0.5mm, IPC Medium Density)
footprint TQFP144_L (Thin QFP, 144-Leads, Body 20x20mm, Pitch 0.5mm, IPC High Density)
footprint TQFP144_M (Thin QFP, 144-Leads, Body 20x20mm, Pitch 0.5mm, IPC Low Density)
3D model EP1C6-TQFP144 (144-Pin Plastic Thin Quad Flat Pack (TQFP144) - Wire Bond)
signal-integrity model 1c (Cyclone)
part A pins: 1 IO, LVDS14p (INIT_DONE)/(DM1L) (io), 2 IO, LVDS14n (CRC_ERROR)/(DQ1L0) (io), 3 IO, LVDS13p (CLKUSR)/(DQ1L1) (io), 4 IO, LVDS13n (io), 5 IO, VREF0B1 (io), 6 IO (DQ1L2) (io), 7 IO, LVDS12p (DQ1L3) (io), 10 IO, DPCLK1 (io), 11 IO, VREF1B1 (io), 12 IO (nCSO) (io), 25 IO (ASDO) (io), 26 IO, PLL1_OUTp (io), 27 IO, PLL1_OUTn (io), 28 IO, DPCLK0 (DQS1L) (io), 31 IO, VREF2B1 (io), 32 IO (DQ1L4) (io), 33 IO, LVDS1p (DQ1L5) (io), 34 IO, LVDS1n (DQ1L6) (io), 35 IO, LVDS0p (DQ1L7) (io), 36 IO, LVDS0n (io)
part B pins: 109 IO, LVDS34n (io), 110 IO, LVDS34p (io), 111 IO, LVDS32n (DQ0T0) (io), 112 IO, LVDS32p (DQ0T1) (io), 113 IO, LVDS31n (DQ0T2) (io), 114 IO, LVDS31p (DQ0T3) (io), 119 IO, DPCLK3 (DQS0T) (io), 120 IO, VREF0B2 (io), 121 IO (io), 122 IO, LVDS27n (io), 123 IO, LVDS25n (DM0T) (io), 124 IO, LVDS25p (io), 125 IO, VREF1B2 (io), 128 IO, LVDS24n (io), 129 IO, LVDS24p (io), 130 IO, LVDS23n (io), 131 IO, LVDS23p (io), 132 IO, LVDS19p (io), 133 IO, VREF2B2 (io), 134 IO, DPCLK2 (DQS1T) (io), 139 IO, LVDS18n (DQ0T4) (io), 140 IO, LVDS18p (DQ0T5) (io), 141 IO, LVDS17n (DQ0T6) (io), 142 IO, LVDS17p (DQ0T7) (io), 143 IO, LVDS15n (DEV_OE) (io), 144 IO, LVDS15p (DEV_CLRn) (io)
part C pins: 73 IO, LVDS51n (io), 74 IO, LVDS51p (io), 75 IO, LVDS50n (io), 76 IO, LVDS50p (io), 77 IO, LVDS49n (DQ1R7) (io), 78 IO, LVDS49p (DQ1R6) (io), 79 IO, VREF2B3 (io), 82 IO, DPCLK5 (DQS1R) (io), 83 IO, LVDS48n (DQ1R5) (io), 84 IO, LVDS48p (DQ1R4) (io), 85 IO, LVDS47n (DM1R) (io), 96 IO, VREF1B3 (io), 97 IO, LVDS39p (DQ1R3) (io), 98 IO, LVDS38n (DQ1R2) (io), 99 IO, LVDS38p (DQ1R1) (io), 100 IO, DPCLK4 (DQS0R) (io), 103 IO (DQ1R0) (io), 104 IO, VREF0B3 (io), 105 IO, LVDS36n (io), 106 IO, LVDS36p (io), 107 IO, LVDS35n (io), 108 IO, LVDS35p (io)
part D pins: 37 IO, LVDS71p (io), 38 IO, LVDS71n (io), 39 IO, LVDS69p (DQ1B7) (io), 40 IO, LVDS69n (DQ1B6) (io), 41 IO, LVDS68p (DQ1B5) (io), 42 IO, LVDS68n (DQ1B4) (io), 47 IO, DPCLK7 (DQS1B) (io), 48 IO, VREF2B4 (io), 49 IO, LVDS67p (io), 50 IO, LVDS63p (io), 51 IO, LVDS63n (io), 52 IO, LVDS62p (io), 53 IO, LVDS62n (io), 56 IO, VREF1B4 (io), 57 IO, LVDS61p (DM1B) (io), 58 IO, LVDS61n (io), 59 IO, LVDS59n (io), 60 IO (io), 61 IO, VREF0B4 (io), 62 IO, DPCLK6 (DQS0B) (io), 67 IO, LVDS55p (DQ1B3) (io), 68 IO, LVDS55n (DQ1B2) (io), 69 IO, LVDS54p (DQ1B1) (io), 70 IO, LVDS54n (DQ1B0) (io), 71 IO, LVDS52p (io), 72 IO, LVDS52n (io)
part E pins: 13 DATA0 (in), 14 nCONFIG (in), 20 nCEO (out), 21 nCE (in), 22 MSEL0 (in), 23 MSEL1 (in), 24 DCLK (io), 86 CONF_DONE (io), 87 nSTATUS (io), 88 TCK (in), 89 TMS (in), 90 TDO (out), 95 TDI (in)
part F pins: 8 VCCIO1 (power), 29 VCCIO1 (power), 44 VCCIO4 (power), 46 VCCINT (power), 55 VCCINT (power), 64 VCCINT (power), 66 VCCIO4 (power), 81 VCCIO3 (power), 102 VCCIO3 (power), 115 VCCIO2 (power), 117 VCCINT (power), 126 VCCINT (power), 135 VCCINT (power), 137 VCCIO2 (power)
part G pins: 9 GND (power), 30 GND (power), 43 GND (power), 45 GND (power), 54 GND (power), 63 GND (power), 65 GND (power), 80 GND (power), 101 GND (power), 116 GND (power), 118 GND (power), 127 GND (power), 136 GND (power), 138 GND (power)
part H pins: 15 VCCA_PLL1 (power), 18 GNDA_PLL1 (power), 19 GNDG_PLL1 (power), 91 GNDG_PLL2 (power), 94 VCCA_PLL2 (power)
part I pins: 16 CLK0, LVDSCLK1p (in), 17 CLK1, LVDSCLK1n (in), 92 CLK3, LVDSCLK2n (in), 93 CLK2, LVDSCLK2p (in)
part A text: BANK 1
part B text: BANK 2
part C text: BANK 3
part D text: BANK 4

## EP1C6T144I8N
designator U?
Cyclone Family, 1.5V FPGA, 98 I/O Pins, 2 x PLLs, Industrial Grade, Speed Grade 8, Pb-Free; Published: 18-Aug-2005; LatestRevisionDate: 13-Apr-2006; LatestRevisionNote: Pin 2 name fix, IPC-7351 Footprint Added.; DatasheetVersion: May-2008; PackageVersion: ver15.1, May-2008; PackageReference: TQFP144; Publisher: Altium Limited; PackageDescription: 144-Pin Plastic Thin Quad Flat Pack (TQFP144) - Wire Bond; Code_JEDEC: MS-026-BFB; ComponentLink1Description: Manufacturer Link; ComponentLink1URL: http://www.altera.com/products/devices/cyclone/cyc-index.jsp; ComponentLink2Description: Handbook; ComponentLink2URL: http://www.altera.com/literature/hb/cyc/cyc_c5v1.pdf; ComponentLink3Description: Packaging Specification; ComponentLink3URL: http://www.altera.com/literature/ds/dspkg.pdf
footprint TQFP144_N (Thin QFP, 144-Leads, Body 20x20mm, Pitch 0.5mm, IPC Medium Density)
footprint TQFP144_L (Thin QFP, 144-Leads, Body 20x20mm, Pitch 0.5mm, IPC High Density)
footprint TQFP144_M (Thin QFP, 144-Leads, Body 20x20mm, Pitch 0.5mm, IPC Low Density)
3D model EP1C6-TQFP144 (144-Pin Plastic Thin Quad Flat Pack (TQFP144) - Wire Bond)
signal-integrity model 1c (Cyclone)
part A pins: 1 IO, LVDS14p (INIT_DONE)/(DM1L) (io), 2 IO, LVDS14n (CRC_ERROR)/(DQ1L0) (io), 3 IO, LVDS13p (CLKUSR)/(DQ1L1) (io), 4 IO, LVDS13n (io), 5 IO, VREF0B1 (io), 6 IO (DQ1L2) (io), 7 IO, LVDS12p (DQ1L3) (io), 10 IO, DPCLK1 (io), 11 IO, VREF1B1 (io), 12 IO (nCSO) (io), 25 IO (ASDO) (io), 26 IO, PLL1_OUTp (io), 27 IO, PLL1_OUTn (io), 28 IO, DPCLK0 (DQS1L) (io), 31 IO, VREF2B1 (io), 32 IO (DQ1L4) (io), 33 IO, LVDS1p (DQ1L5) (io), 34 IO, LVDS1n (DQ1L6) (io), 35 IO, LVDS0p (DQ1L7) (io), 36 IO, LVDS0n (io)
part B pins: 109 IO, LVDS34n (io), 110 IO, LVDS34p (io), 111 IO, LVDS32n (DQ0T0) (io), 112 IO, LVDS32p (DQ0T1) (io), 113 IO, LVDS31n (DQ0T2) (io), 114 IO, LVDS31p (DQ0T3) (io), 119 IO, DPCLK3 (DQS0T) (io), 120 IO, VREF0B2 (io), 121 IO (io), 122 IO, LVDS27n (io), 123 IO, LVDS25n (DM0T) (io), 124 IO, LVDS25p (io), 125 IO, VREF1B2 (io), 128 IO, LVDS24n (io), 129 IO, LVDS24p (io), 130 IO, LVDS23n (io), 131 IO, LVDS23p (io), 132 IO, LVDS19p (io), 133 IO, VREF2B2 (io), 134 IO, DPCLK2 (DQS1T) (io), 139 IO, LVDS18n (DQ0T4) (io), 140 IO, LVDS18p (DQ0T5) (io), 141 IO, LVDS17n (DQ0T6) (io), 142 IO, LVDS17p (DQ0T7) (io), 143 IO, LVDS15n (DEV_OE) (io), 144 IO, LVDS15p (DEV_CLRn) (io)
part C pins: 73 IO, LVDS51n (io), 74 IO, LVDS51p (io), 75 IO, LVDS50n (io), 76 IO, LVDS50p (io), 77 IO, LVDS49n (DQ1R7) (io), 78 IO, LVDS49p (DQ1R6) (io), 79 IO, VREF2B3 (io), 82 IO, DPCLK5 (DQS1R) (io), 83 IO, LVDS48n (DQ1R5) (io), 84 IO, LVDS48p (DQ1R4) (io), 85 IO, LVDS47n (DM1R) (io), 96 IO, VREF1B3 (io), 97 IO, LVDS39p (DQ1R3) (io), 98 IO, LVDS38n (DQ1R2) (io), 99 IO, LVDS38p (DQ1R1) (io), 100 IO, DPCLK4 (DQS0R) (io), 103 IO (DQ1R0) (io), 104 IO, VREF0B3 (io), 105 IO, LVDS36n (io), 106 IO, LVDS36p (io), 107 IO, LVDS35n (io), 108 IO, LVDS35p (io)
part D pins: 37 IO, LVDS71p (io), 38 IO, LVDS71n (io), 39 IO, LVDS69p (DQ1B7) (io), 40 IO, LVDS69n (DQ1B6) (io), 41 IO, LVDS68p (DQ1B5) (io), 42 IO, LVDS68n (DQ1B4) (io), 47 IO, DPCLK7 (DQS1B) (io), 48 IO, VREF2B4 (io), 49 IO, LVDS67p (io), 50 IO, LVDS63p (io), 51 IO, LVDS63n (io), 52 IO, LVDS62p (io), 53 IO, LVDS62n (io), 56 IO, VREF1B4 (io), 57 IO, LVDS61p (DM1B) (io), 58 IO, LVDS61n (io), 59 IO, LVDS59n (io), 60 IO (io), 61 IO, VREF0B4 (io), 62 IO, DPCLK6 (DQS0B) (io), 67 IO, LVDS55p (DQ1B3) (io), 68 IO, LVDS55n (DQ1B2) (io), 69 IO, LVDS54p (DQ1B1) (io), 70 IO, LVDS54n (DQ1B0) (io), 71 IO, LVDS52p (io), 72 IO, LVDS52n (io)
part E pins: 13 DATA0 (in), 14 nCONFIG (in), 20 nCEO (out), 21 nCE (in), 22 MSEL0 (in), 23 MSEL1 (in), 24 DCLK (io), 86 CONF_DONE (io), 87 nSTATUS (io), 88 TCK (in), 89 TMS (in), 90 TDO (out), 95 TDI (in)
part F pins: 8 VCCIO1 (power), 29 VCCIO1 (power), 44 VCCIO4 (power), 46 VCCINT (power), 55 VCCINT (power), 64 VCCINT (power), 66 VCCIO4 (power), 81 VCCIO3 (power), 102 VCCIO3 (power), 115 VCCIO2 (power), 117 VCCINT (power), 126 VCCINT (power), 135 VCCINT (power), 137 VCCIO2 (power)
part G pins: 9 GND (power), 30 GND (power), 43 GND (power), 45 GND (power), 54 GND (power), 63 GND (power), 65 GND (power), 80 GND (power), 101 GND (power), 116 GND (power), 118 GND (power), 127 GND (power), 136 GND (power), 138 GND (power)
part H pins: 15 VCCA_PLL1 (power), 18 GNDA_PLL1 (power), 19 GNDG_PLL1 (power), 91 GNDG_PLL2 (power), 94 VCCA_PLL2 (power)
part I pins: 16 CLK0, LVDSCLK1p (in), 17 CLK1, LVDSCLK1n (in), 92 CLK3, LVDSCLK2n (in), 93 CLK2, LVDSCLK2p (in)
part A text: BANK 1
part B text: BANK 2
part C text: BANK 3
part D text: BANK 4

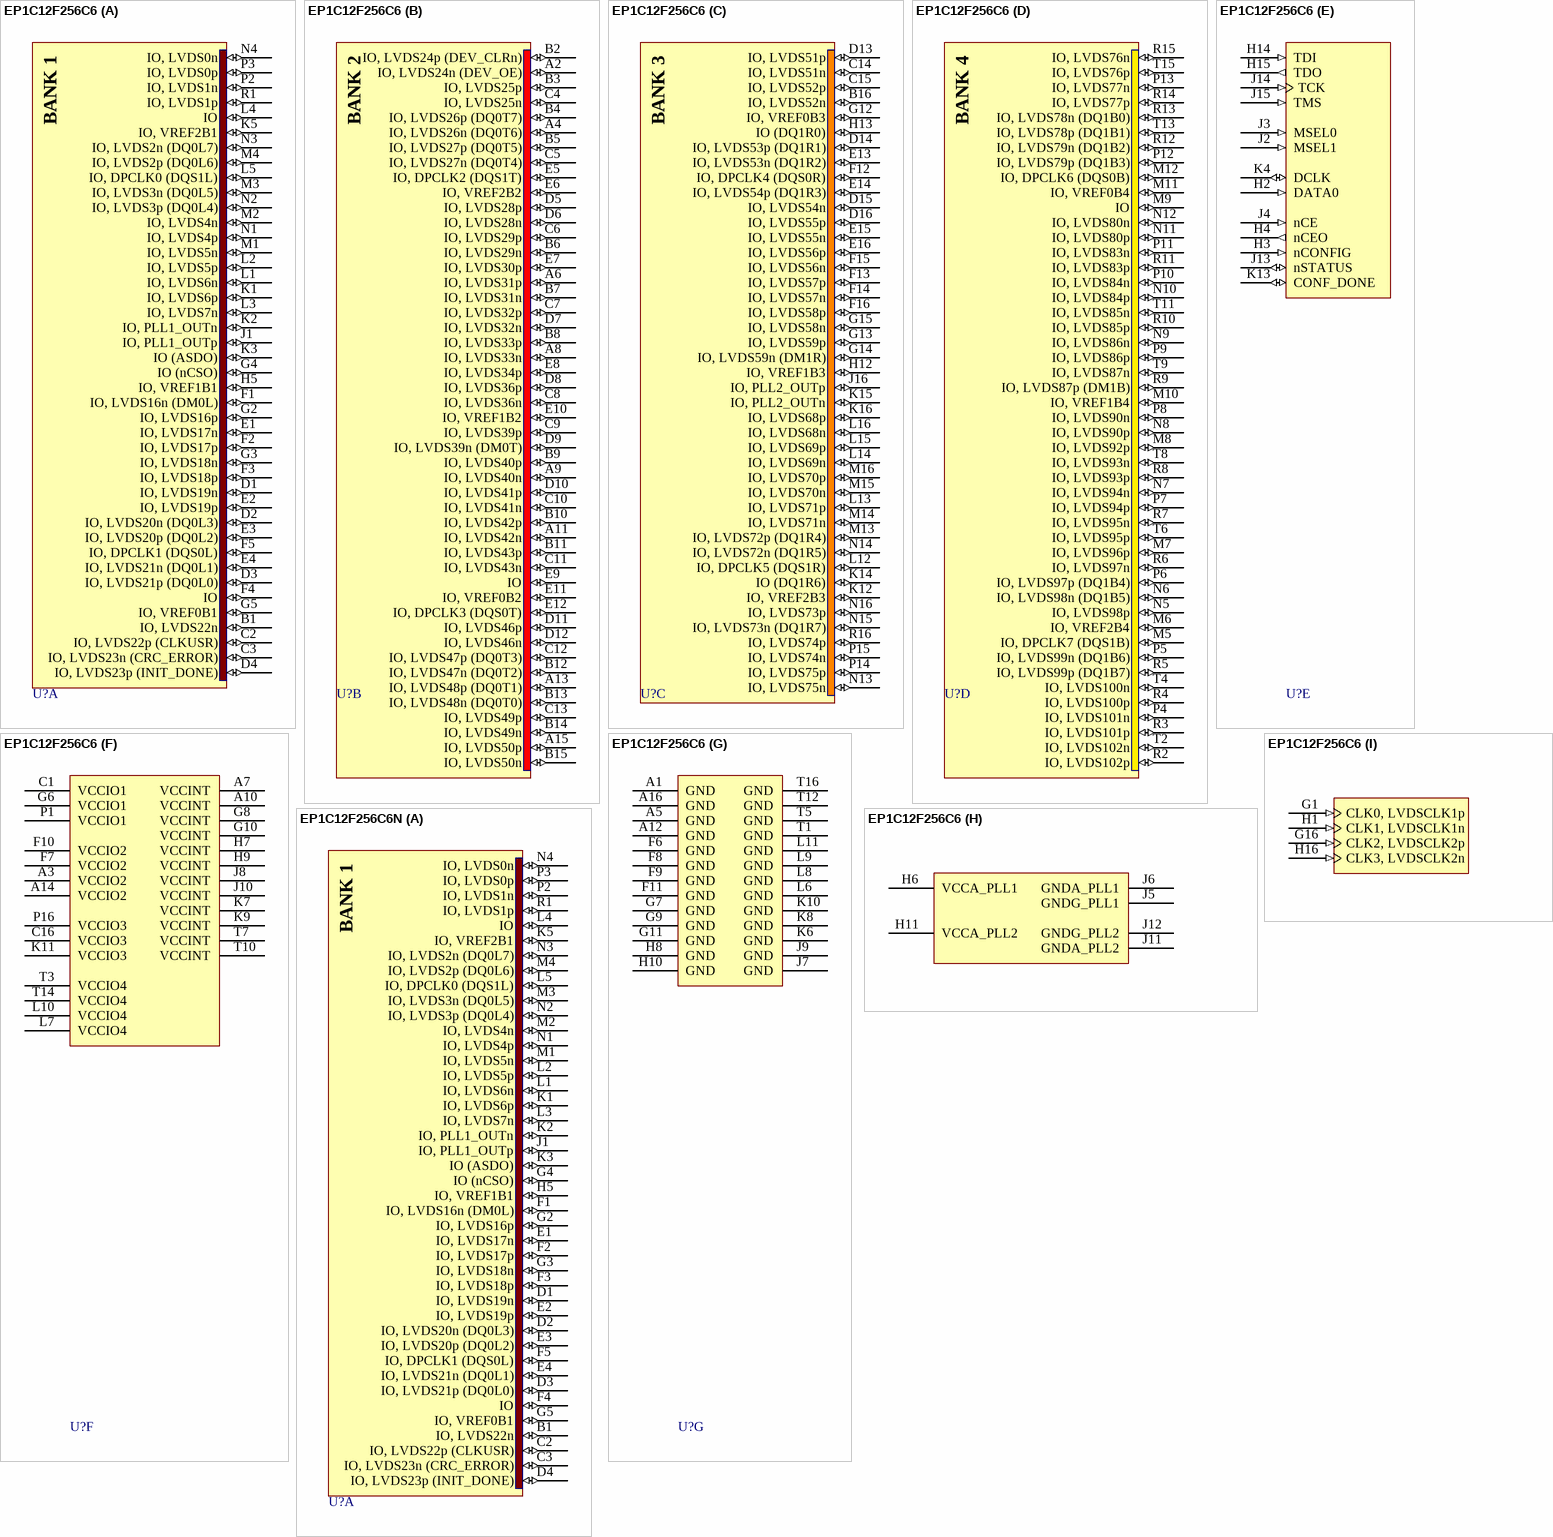
[diagram p80: symbols EP1C12F256C6 to EP1C12F256C6N]

## EP1C12F256C6
designator U?
Cyclone Family, 1.5V FPGA, 185 I/O Pins, 2 x PLLs, Commercial Grade, Speed Grade 6; Published: 17-Sep-2003; LatestRevisionDate: 30-Mar-2007; LatestRevisionNote: DQS pin names fixed.; DatasheetVersion: May-2008; PackageVersion: ver15.1, May-2008; PackageReference: FBGA256; Publisher: Altium Limited; PackageDescription: 256-Ball FineLine Ball Grid Array (FBGA256) - Option 1 - Wire Bond; Code_JEDEC: MS-034-AAF-1; Code_IPC: BGA100P16X16-256; ComponentLink1Description: Manufacturer Link; ComponentLink1URL: http://www.altera.com/products/devices/cyclone/cyc-index.jsp; ComponentLink2Description: Handbook; ComponentLink2URL: http://www.altera.com/literature/hb/cyc/cyc_c5v1.pdf; ComponentLink3Description: Packaging Specification; ComponentLink3URL: http://www.altera.com/literature/ds/dspkg.pdf
footprint FBGA256 (BGA, 256-Leads, Body 17x17mm, Pitch 1mm)
3D model EP1C12-FBGA256 (256-Ball FineLine Ball Grid Array (FBGA256) - Option 1 - Wire Bond)
signal-integrity model 1c (Cyclone)
part A pins: B1 IO, LVDS22n (io), C2 IO, LVDS22p (CLKUSR) (io), C3 IO, LVDS23n (CRC_ERROR) (io), D1 IO, LVDS19n (io), D2 IO, LVDS20n (DQ0L3) (io), D3 IO, LVDS21p (DQ0L0) (io), D4 IO, LVDS23p (INIT_DONE) (io), E1 IO, LVDS17n (io), E2 IO, LVDS19p (io), E3 IO, LVDS20p (DQ0L2) (io), E4 IO, LVDS21n (DQ0L1) (io), F1 IO, LVDS16n (DM0L) (io), F2 IO, LVDS17p (io), F3 IO, LVDS18p (io), F4 IO (io), F5 IO, DPCLK1 (DQS0L) (io), G2 IO, LVDS16p (io), G3 IO, LVDS18n (io), G4 IO (nCSO) (io), G5 IO, VREF0B1 (io), H5 IO, VREF1B1 (io), J1 IO, PLL1_OUTp (io), K1 IO, LVDS6p (io), K2 IO, PLL1_OUTn (io), K3 IO (ASDO) (io), K5 IO, VREF2B1 (io), L1 IO, LVDS6n (io), L2 IO, LVDS5p (io), L3 IO, LVDS7n (io), L4 IO (io), L5 IO, DPCLK0 (DQS1L) (io), M1 IO, LVDS5n (io), M2 IO, LVDS4n (io), M3 IO, LVDS3n (DQ0L5) (io), M4 IO, LVDS2p (DQ0L6) (io), N1 IO, LVDS4p (io), N2 IO, LVDS3p (DQ0L4) (io), N3 IO, LVDS2n (DQ0L7) (io), N4 IO, LVDS0n (io), P2 IO, LVDS1n (io), P3 IO, LVDS0p (io), R1 IO, LVDS1p (io)
part B pins: A2 IO, LVDS24n (DEV_OE) (io), A4 IO, LVDS26n (DQ0T6) (io), A6 IO, LVDS31p (io), A8 IO, LVDS33n (io), A9 IO, LVDS40n (io), A11 IO, LVDS42n (io), A13 IO, LVDS48p (DQ0T1) (io), A15 IO, LVDS50p (io), B2 IO, LVDS24p (DEV_CLRn) (io), B3 IO, LVDS25p (io), B4 IO, LVDS26p (DQ0T7) (io), B5 IO, LVDS27p (DQ0T5) (io), B6 IO, LVDS29n (io), B7 IO, LVDS31n (io), B8 IO, LVDS33p (io), B9 IO, LVDS40p (io), B10 IO, LVDS42p (io), B11 IO, LVDS43p (io), B12 IO, LVDS47n (DQ0T2) (io), B13 IO, LVDS48n (DQ0T0) (io), B14 IO, LVDS49n (io), B15 IO, LVDS50n (io), C4 IO, LVDS25n (io), C5 IO, LVDS27n (DQ0T4) (io), C6 IO, LVDS29p (io), C7 IO, LVDS32p (io), C8 IO, LVDS36n (io), C9 IO, LVDS39p (io), C10 IO, LVDS41n (io), C11 IO, LVDS43n (io), C12 IO, LVDS47p (DQ0T3) (io), C13 IO, LVDS49p (io), D5 IO, LVDS28p (io), D6 IO, LVDS28n (io), D7 IO, LVDS32n (io), D8 IO, LVDS36p (io), D9 IO, LVDS39n (DM0T) (io), D10 IO, LVDS41p (io), D11 IO, LVDS46p (io), D12 IO, LVDS46n (io), E5 IO, DPCLK2 (DQS1T) (io), E6 IO, VREF2B2 (io), E7 IO, LVDS30p (io), E8 IO, LVDS34p (io), E9 IO (io), E10 IO, VREF1B2 (io), E11 IO, VREF0B2 (io), E12 IO, DPCLK3 (DQS0T) (io)
part C pins: B16 IO, LVDS52n (io), C14 IO, LVDS51n (io), C15 IO, LVDS52p (io), D13 IO, LVDS51p (io), D14 IO, LVDS53p (DQ1R1) (io), D15 IO, LVDS54n (io), D16 IO, LVDS55p (io), E13 IO, LVDS53n (DQ1R2) (io), E14 IO, LVDS54p (DQ1R3) (io), E15 IO, LVDS55n (io), E16 IO, LVDS56p (io), F12 IO, DPCLK4 (DQS0R) (io), F13 IO, LVDS57p (io), F14 IO, LVDS57n (io), F15 IO, LVDS56n (io), F16 IO, LVDS58p (io), G12 IO, VREF0B3 (io), G13 IO, LVDS59p (io), G14 IO, LVDS59n (DM1R) (io), G15 IO, LVDS58n (io), H12 IO, VREF1B3 (io), H13 IO (DQ1R0) (io), J16 IO, PLL2_OUTp (io), K12 IO, VREF2B3 (io), K14 IO (DQ1R6) (io), K15 IO, PLL2_OUTn (io), K16 IO, LVDS68p (io), L12 IO, DPCLK5 (DQS1R) (io), L13 IO, LVDS71p (io), L14 IO, LVDS69n (io), L15 IO, LVDS69p (io), L16 IO, LVDS68n (io), M13 IO, LVDS72p (DQ1R4) (io), M14 IO, LVDS71n (io), M15 IO, LVDS70n (io), M16 IO, LVDS70p (io), N13 IO, LVDS75n (io), N14 IO, LVDS72n (DQ1R5) (io), N15 IO, LVDS73n (DQ1R7) (io), N16 IO, LVDS73p (io), P14 IO, LVDS75p (io), P15 IO, LVDS74n (io), R16 IO, LVDS74p (io)
part D pins: M5 IO, DPCLK7 (DQS1B) (io), M6 IO, VREF2B4 (io), M7 IO, LVDS96p (io), M8 IO, LVDS92p (io), M9 IO (io), M10 IO, VREF1B4 (io), M11 IO, VREF0B4 (io), M12 IO, DPCLK6 (DQS0B) (io), N5 IO, LVDS98p (io), N6 IO, LVDS98n (DQ1B5) (io), N7 IO, LVDS94n (io), N8 IO, LVDS90p (io), N9 IO, LVDS86n (io), N10 IO, LVDS84p (io), N11 IO, LVDS80p (io), N12 IO, LVDS80n (io), P4 IO, LVDS101n (io), P5 IO, LVDS99n (DQ1B6) (io), P6 IO, LVDS97p (DQ1B4) (io), P7 IO, LVDS94p (io), P8 IO, LVDS90n (io), P9 IO, LVDS86p (io), P10 IO, LVDS84n (io), P11 IO, LVDS83n (io), P12 IO, LVDS79p (DQ1B3) (io), P13 IO, LVDS77n (io), R2 IO, LVDS102p (io), R3 IO, LVDS101p (io), R4 IO, LVDS100p (io), R5 IO, LVDS99p (DQ1B7) (io), R6 IO, LVDS97n (io), R7 IO, LVDS95n (io), R8 IO, LVDS93p (io), R9 IO, LVDS87p (DM1B) (io), R10 IO, LVDS85p (io), R11 IO, LVDS83p (io), R12 IO, LVDS79n (DQ1B2) (io), R13 IO, LVDS78n (DQ1B0) (io), R14 IO, LVDS77p (io), R15 IO, LVDS76n (io), T2 IO, LVDS102n (io), T4 IO, LVDS100n (io), T6 IO, LVDS95p (io), T8 IO, LVDS93n (io), T9 IO, LVDS87n (io), T11 IO, LVDS85n (io), T13 IO, LVDS78p (DQ1B1) (io), T15 IO, LVDS76p (io)
part E pins: H2 DATA0 (in), H3 nCONFIG (in), H4 nCEO (out), H14 TDI (in), H15 TDO (out), J2 MSEL1 (in), J3 MSEL0 (in), J4 nCE (in), J13 nSTATUS (io), J14 TCK (in), J15 TMS (in), K4 DCLK (io), K13 CONF_DONE (io)
part F pins: A3 VCCIO2 (power), A7 VCCINT (power), A10 VCCINT (power), A14 VCCIO2 (power), C1 VCCIO1 (power), C16 VCCIO3 (power), F7 VCCIO2 (power), F10 VCCIO2 (power), G6 VCCIO1 (power), G8 VCCINT (power), G10 VCCINT (power), H7 VCCINT (power), H9 VCCINT (power), J8 VCCINT (power), J10 VCCINT (power), K7 VCCINT (power), K9 VCCINT (power), K11 VCCIO3 (power), L7 VCCIO4 (power), L10 VCCIO4 (power), P1 VCCIO1 (power), P16 VCCIO3 (power), T3 VCCIO4 (power), T7 VCCINT (power), T10 VCCINT (power), T14 VCCIO4 (power)
part G pins: A1 GND (power), A5 GND (power), A12 GND (power), A16 GND (power), F6 GND (power), F8 GND (power), F9 GND (power), F11 GND (power), G7 GND (power), G9 GND (power), G11 GND (power), H8 GND (power), H10 GND (power), J7 GND (power), J9 GND (power), K6 GND (power), K8 GND (power), K10 GND (power), L6 GND (power), L8 GND (power), L9 GND (power), L11 GND (power), T1 GND (power), T5 GND (power), T12 GND (power), T16 GND (power)
part H pins: H6 VCCA_PLL1 (power), H11 VCCA_PLL2 (power), J5 GNDG_PLL1 (power), J6 GNDA_PLL1 (power), J11 GNDA_PLL2 (power), J12 GNDG_PLL2 (power)
part I pins: G1 CLK0, LVDSCLK1p (in), G16 CLK2, LVDSCLK2p (in), H1 CLK1, LVDSCLK1n (in), H16 CLK3, LVDSCLK2n (in)
part A text: BANK 1
part B text: BANK 2
part C text: BANK 3
part D text: BANK 4

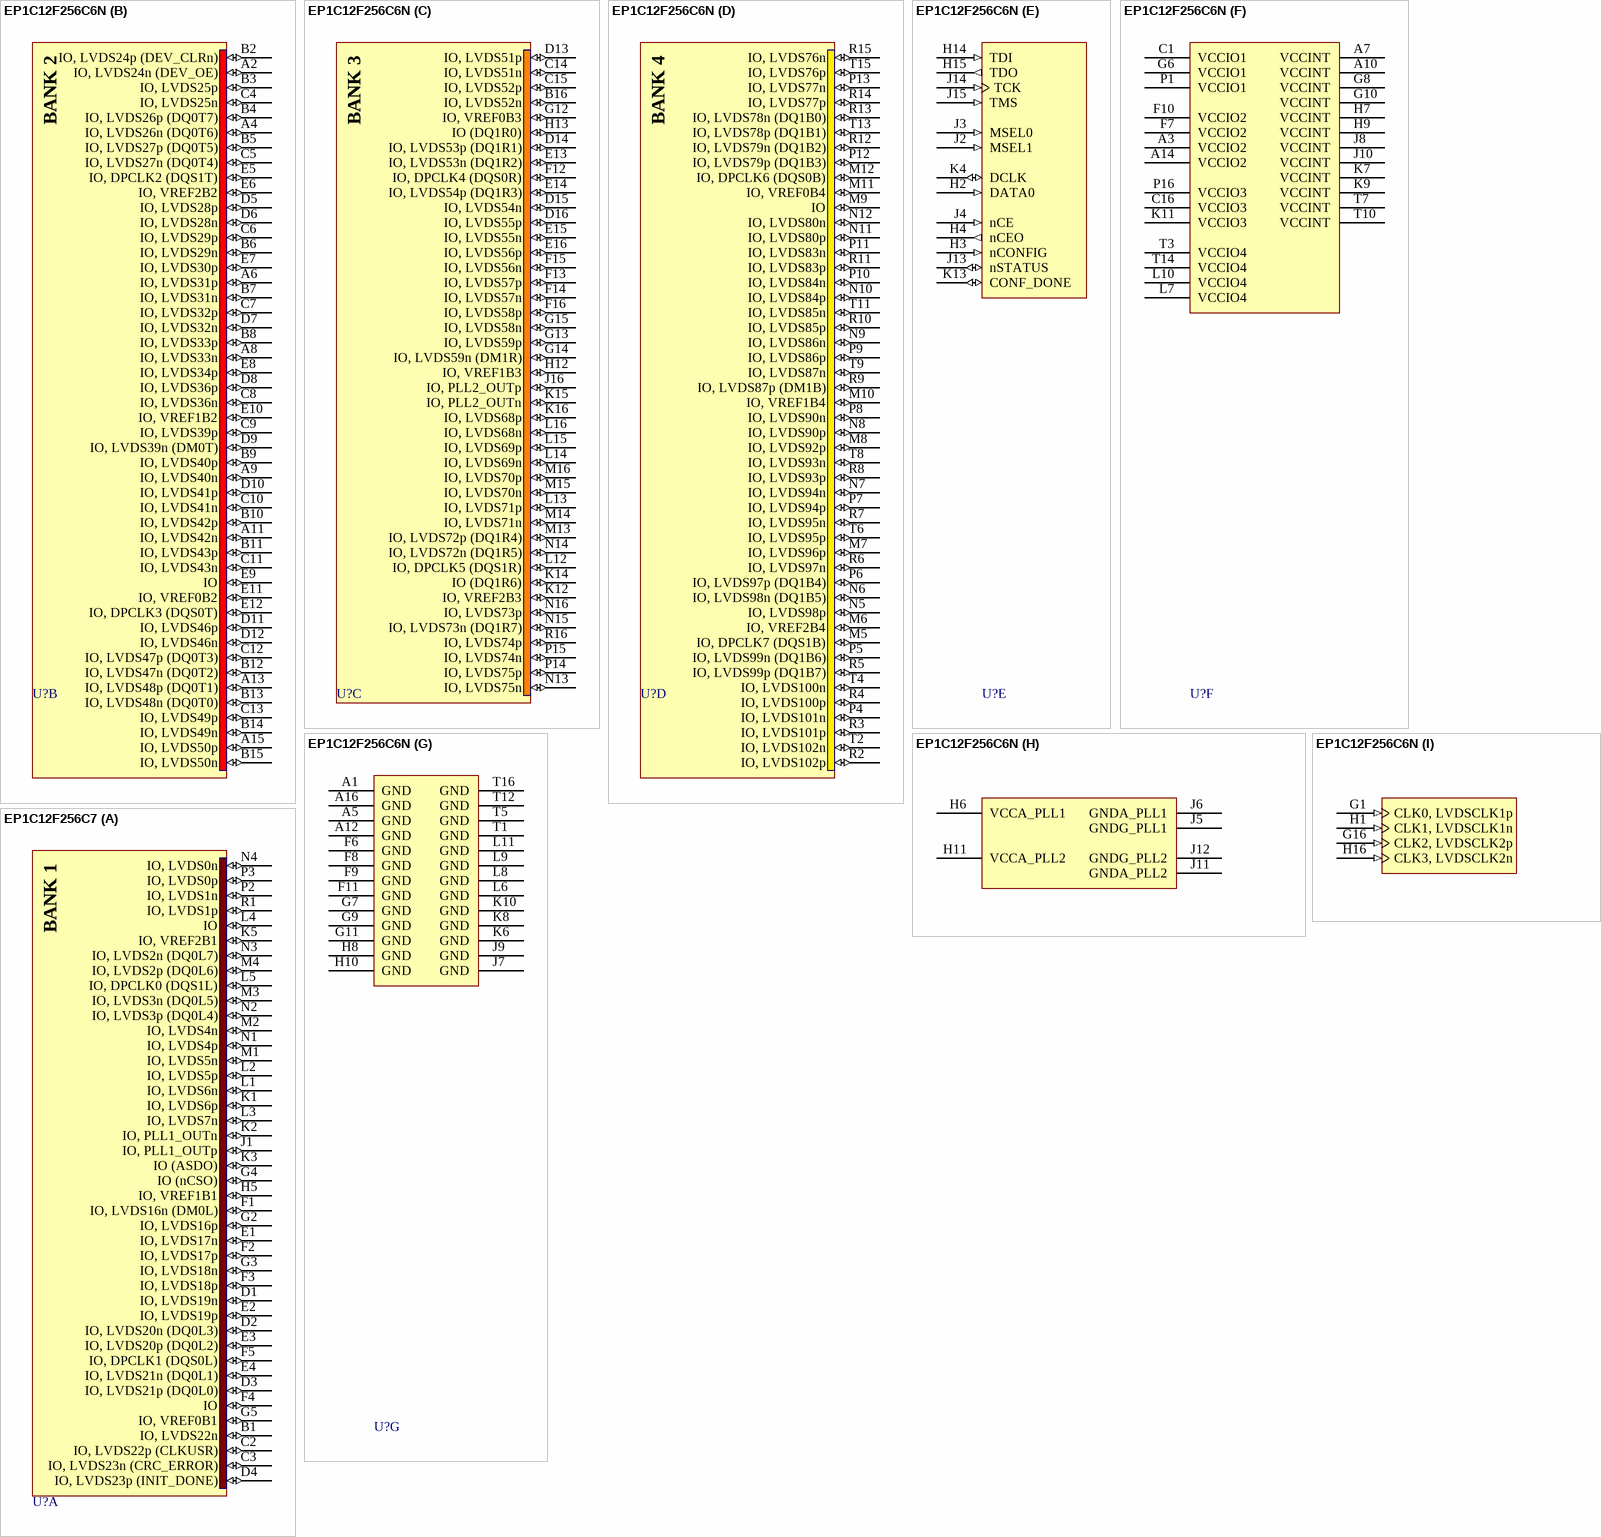
[diagram p81: symbols EP1C12F256C6N to EP1C12F256C7]